# Altium integrated library Xilinx Virtex-II Pro.IntLib: 140 symbols (part 29 of 77)
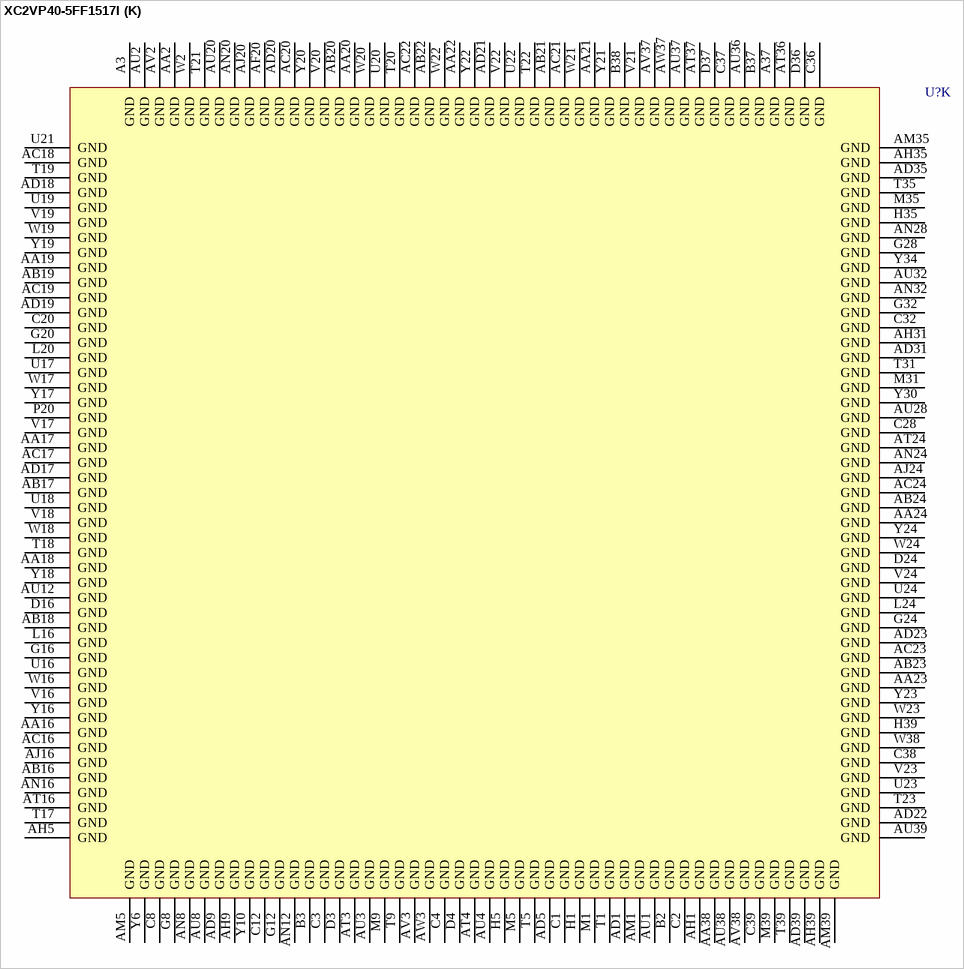
[diagram p427: symbol XC2VP40-5FF1517I]

## XC2VP40-5FF1517I
designator U?
Virtex-II Pro Platform FPGA, 1517-Ball FFBGA, Speed Grade 5, 804 User I/Os, Industrial Grade; PackageDocument: ver1.0, Apr-2001; User_I/Os: 804; Published: 16-Apr-2003; DatasheetDocument: 22-Apr-2004; PackageReference: FF1517; Publisher: Altium Limited; Code_JEDEC: MS-034-AAU-1
footprint FF1517 (1517-Ball Flip-Chip Fine Pitch Ball Grid Array (FF1517))
3D model XC2VP40-FF1517 (1517-Ball Flip-Chip Fine Pitch Ball Grid Array (FF1517))
signal-integrity model XC2VP40_FF1517 (Virtex-II Pro)
part A pins: C21 IO_L69P_0/VREF_0 (io), C22 IO_L69N_0 (io), C23 IO_L57N_0 (io), C25 IO_L46N_0 (io), C26 IO_L39N_0 (io), C29 IO_L21N_0 (io), C30 IO_L07N_0 (io), D20 IO_L75N_0/GCLK5P (io), D21 IO_L67N_0 (io), D22 NC, D23 IO_L57P_0/VREF_0 (io), D25 IO_L46P_0 (io), D26 IO_L39P_0 (io), D27 NC, D28 IO_L27N_0 (io), D29 IO_L21P_0 (io), D30 IO_L07P_0 (io), D31 IO_L01N_0/VRP_0 (io), E20 IO_L75P_0/GCLK4S (io), E21 IO_L67P_0 (io), E22 NC, E23 NC, E24 IO_L49P_0 (io), E25 IO_L49N_0 (io), E26 IO_L37N_0 (io), E27 NC, E28 IO_L27P_0/VREF_0 (io), E29 IO_L19N_0 (io), E30 IO_L06N_0 (io), E31 IO_L01P_0/VRN_0 (io), F20 IO_L73P_0 (io), F21 IO_L73N_0 (io), F22 NC, F23 VCCO_0 (power), F24 IO_L55N_0 (io), F25 IO_L45N_0 (io), F26 IO_L37P_0 (io), F27 VCCO_0 (power), F28 NC, F29 IO_L19P_0 (io), F30 IO_L06P_0 (io), G21 NC, G22 NC, G23 IO_L55P_0 (io), G25 IO_L45P_0/VREF_0 (io), G26 NC, G27 NC, G29 IO_L09N_0 (io), G30 IO_L03N_0 (io), H20 NC, H21 NC, H22 NC, H23 IO_L54N_0 (io), H24 IO_L48N_0 (io), H25 IO_L43N_0 (io), H26 NC, H27 NC, H28 IO_L25N_0 (io), H29 IO_L09P_0/VREF_0 (io), H30 IO_L03P_0/VREF_0 (io), J21 IO_L68N_0 (io), J22 NC, J23 IO_L54P_0 (io), J24 IO_L48P_0 (io), J25 IO_L43P_0 (io), J26 NC, J27 NC, J28 IO_L25P_0 (io), J29 IO_L08N_0 (io), J30 IO_L02P_0 (io), K21 IO_L68P_0 (io), K22 IO_L56N_0 (io), K23 VCCO_0 (power), K24 IO_L38P_0 (io), K25 IO_L38N_0 (io), K26 NC, K27 VCCO_0 (power), K28 IO_L05_0/No_Pair (io), K29 IO_L08P_0 (io), K30 IO_L02N_0 (io), L21 IO_L74N_0/GCLK7P (io), L22 IO_L56P_0 (io), L23 IO_L47N_0 (io), L25 NC, L26 NC, L27 IO_L20P_0 (io), L28 IO_L20N_0 (io), M21 IO_L74P_0/GCLK6S (io), M22 IO_L47P_0 (io), M23 IO_L53_0/No_Pair (io), M24 IO_L44P_0 (io), M25 IO_L44N_0 (io), M26 IO_L26P_0 (io), M27 IO_L26N_0 (io), N21 NC, N22 NC, N23 IO_L50_0/No_Pair (io), N24 VCCO_0 (power), N25 VCCO_0 (power), N26 VCCO_0 (power), P21 VCCO_0 (power), P22 VCCO_0 (power), P23 VCCO_0 (power), P24 VCCO_0 (power), P25 VCCO_0 (power)
part B pins: C10 IO_L07P_1 (io), C11 IO_L25P_1 (io), C14 IO_L43P_1 (io), C15 IO_L48P_1 (io), C17 IO_L57P_1 (io), C18 NC, C19 NC, D9 IO_L01P_1/VRN_1 (io), D10 IO_L07N_1 (io), D11 IO_L25N_1 (io), D12 NC, D13 NC, D14 IO_L43N_1 (io), D15 IO_L48N_1 (io), D17 IO_L57N_1/VREF_1 (io), D18 NC, D19 IO_L73P_1 (io), E9 IO_L01N_1/VRP_1 (io), E10 IO_L06P_1 (io), E11 IO_L21P_1 (io), E12 NC, E13 NC, E14 IO_L39P_1 (io), E15 IO_L46P_1 (io), E16 IO_L55P_1 (io), E17 IO_L55N_1 (io), E18 NC, E19 IO_L73N_1 (io), F10 IO_L06N_1 (io), F11 IO_L21N_1 (io), F12 NC, F13 VCCO_1 (power), F14 IO_L39N_1 (io), F15 IO_L46N_1 (io), F16 IO_L54P_1 (io), F17 VCCO_1 (power), F18 NC, F19 IO_L69P_1 (io), G10 IO_L03P_1 (io), G11 IO_L19P_1 (io), G13 NC, G14 IO_L37P_1 (io), G15 IO_L45P_1 (io), G17 IO_L54N_1 (io), G18 NC, G19 IO_L69N_1/VREF_1 (io), H10 IO_L03N_1/VREF_1 (io), H11 IO_L19N_1 (io), H12 IO_L27P_1 (io), H13 NC, H14 IO_L37N_1 (io), H15 IO_L45N_1/VREF_1 (io), H16 IO_L49P_1 (io), H17 IO_L50_1/No_Pair (io), H18 NC, H19 IO_L67P_1 (io), J10 IO_L09P_1 (io), J11 IO_L09N_1/VREF_1 (io), J12 IO_L27N_1/VREF_1 (io), J13 NC, J14 IO_L26P_1 (io), J15 NC, J16 IO_L49N_1 (io), J17 IO_L53_1/No_Pair (io), J18 NC, J19 IO_L67N_1 (io), J20 IO_L75P_1/GCLK2S (io), K10 IO_L05_1/No_Pair (io), K11 IO_L02P_1 (io), K12 IO_L02N_1 (io), K13 VCCO_1 (power), K14 IO_L26N_1 (io), K15 NC, K16 IO_L47P_1 (io), K17 VCCO_1 (power), K18 NC, K19 IO_L68P_1 (io), K20 IO_L75N_1/GCLK3P (io), L12 IO_L08P_1 (io), L13 IO_L08N_1 (io), L14 NC, L15 NC, L17 IO_L47N_1 (io), L18 NC, L19 IO_L68N_1 (io), M13 IO_L20P_1 (io), M14 IO_L20N_1 (io), M15 IO_L38P_1 (io), M16 IO_L38N_1 (io), M17 IO_L44P_1 (io), M18 IO_L56P_1 (io), M19 NC, M20 IO_L74P_1/GCLK0S (io), N14 VCCO_1 (power), N15 VCCO_1 (power), N16 VCCO_1 (power), N17 IO_L44N_1 (io), N18 IO_L56N_1 (io), N19 NC, N20 IO_L74N_1/GCLK1P (io), P15 VCCO_1 (power), P16 VCCO_1 (power), P17 VCCO_1 (power), P18 VCCO_1 (power), P19 VCCO_1 (power)
part C pins: C5 IO_L03N_2 (io), C7 IO_L01N_2/VRP_2 (io), D1 NC, D2 NC, D5 IO_L03P_2 (io), D6 IO_L04N_2/VREF_2 (io), D7 IO_L01P_2/VRN_2 (io), E1 VCCO_2 (power), E2 NC, E3 NC, E4 VCCO_2 (power), E6 IO_L04P_2 (io), E7 IO_L06N_2 (io), F1 NC, F2 NC, F3 NC, F4 NC, F5 NC, F7 IO_L06P_2 (io), F8 VCCO_2 (power), G1 NC, G2 NC, G3 NC, G4 NC, G5 NC, G6 NC, G7 NC, G9 IO_L02N_2 (io), H2 IO_L09N_2 (io), H3 IO_L09P_2 (io), H4 IO_L12N_2 (io), H6 IO_L07N_2 (io), H7 IO_L07P_2 (io), H8 IO_L05N_2 (io), H9 IO_L02P_2 (io), J1 IO_L13N_2 (io), J2 IO_L13P_2 (io), J3 IO_L18P_2 (io), J4 VCCO_2 (power), J5 IO_L12P_2 (io), J6 IO_L10N_2/VREF_2 (io), J7 IO_L10P_2 (io), J8 VCCO_2 (power), J9 IO_L05P_2 (io), K1 IO_L19N_2 (io), K2 IO_L19P_2 (io), K3 IO_L18N_2 (io), K4 IO_L16N_2/VREF_2 (io), K5 IO_L16P_2 (io), K6 IO_L15N_2 (io), K7 IO_L15P_2 (io), K8 IO_L08N_2 (io), K9 IO_L08P_2 (io), L1 IO_L25N_2 (io), L2 IO_L25P_2 (io), L3 IO_L24N_2 (io), L4 IO_L24P_2 (io), L5 IO_L22N_2/VREF_2 (io), L6 IO_L22P_2 (io), L7 IO_L21N_2 (io), L8 IO_L21P_2 (io), L9 IO_L11N_2 (io), M2 IO_L28N_2/VREF_2 (io), M3 IO_L28P_2 (io), M4 IO_L31N_2 (io), M6 IO_L27N_2 (io), M7 IO_L27P_2 (io), M8 IO_L14N_2 (io), M10 IO_L11P_2 (io), M11 IO_L20N_2 (io), N1 IO_L33N_2 (io), N2 IO_L33P_2 (io), N3 IO_L37P_2 (io), N4 VCCO_2 (power), N5 IO_L31P_2 (io), N6 IO_L30N_2 (io), N7 IO_L30P_2 (io), N8 VCCO_2 (power), N9 IO_L14P_2 (io), N10 IO_L17P_2 (io), N11 IO_L20P_2 (io), N12 VCCO_2 (power), P1 IO_L39N_2 (io), P2 IO_L39P_2 (io), P3 IO_L37N_2 (io), P4 IO_L36N_2 (io), P5 IO_L36P_2 (io), P6 IO_L34N_2/VREF_2 (io), P7 IO_L34P_2 (io), P8 IO_L23N_2 (io), P9 IO_L23P_2 (io), P10 IO_L17N_2 (io), P11 IO_L26N_2 (io), P12 IO_L26P_2 (io), P13 VCCO_2 (power), R1 IO_L45N_2 (io), R2 IO_L45P_2 (io), R3 IO_L43N_2 (io), R4 IO_L43P_2 (io), R5 IO_L42N_2 (io), R6 IO_L42P_2 (io), R7 IO_L40N_2/VREF_2 (io), R8 IO_L40P_2 (io), R9 IO_L29N_2 (io), R10 IO_L29P_2 (io), R11 IO_L32N_2 (io), R12 IO_L32P_2 (io), R13 IO_L35N_2 (io), R14 VCCO_2 (power), T2 IO_L48N_2 (io), T3 IO_L48P_2 (io), T4 IO_L51P_2 (io), T6 IO_L46N_2/VREF_2 (io), T7 IO_L46P_2 (io), T8 IO_L44P_2 (io), T10 IO_L38N_2 (io), T11 IO_L38P_2 (io), T12 IO_L41N_2 (io), T13 IO_L35P_2 (io), T14 VCCO_2 (power), U1 IO_L52N_2/VREF_2 (io), U2 IO_L52P_2 (io), U3 VCCO_2 (power), U4 IO_L51N_2 (io), U5 IO_L49N_2 (io), U6 IO_L49P_2 (io), U7 VCCO_2 (power), U8 IO_L44N_2 (io), U9 IO_L47N_2 (io), U10 IO_L47P_2 (io), U11 VCCO_2 (power), U12 IO_L41P_2 (io), U13 IO_L50N_2 (io), U14 VCCO_2 (power), V1 IO_L58N_2/VREF_2 (io), V2 IO_L58P_2 (io), V3 IO_L57N_2 (io), V4 IO_L57P_2 (io), V5 IO_L55N_2 (io), V6 IO_L55P_2 (io), V7 IO_L54N_2 (io), V8 IO_L54P_2 (io), V9 IO_L53N_2 (io), V10 IO_L53P_2 (io), V11 IO_L56N_2 (io), V12 IO_L56P_2 (io), V13 IO_L50P_2 (io), V14 VCCO_2 (power), W3 IO_L87N_2 (io), W4 IO_L87P_2 (io), W5 IO_L85N_2 (io), W6 IO_L85P_2 (io), W7 IO_L60N_2 (io), W8 IO_L60P_2 (io), W9 IO_L89N_2 (io), W10 IO_L59N_2 (io), W11 IO_L59P_2 (io), W12 IO_L86N_2 (io), W13 IO_L86P_2 (io), W14 VCCO_2 (power), Y3 IO_L90N_2 (io), Y4 IO_L90P_2 (io), Y5 VCCO_2 (power), Y7 IO_L88N_2/VREF_2 (io), Y8 IO_L88P_2 (io), Y9 IO_L89P_2 (io)
part D pins: AA3 IO_L87N_3/VREF_3 (io), AA4 IO_L87P_3 (io), AA5 IO_L88N_3 (io), AA6 IO_L88P_3 (io), AA7 IO_L90N_3 (io), AA8 IO_L90P_3 (io), AA9 IO_L59N_3 (io), AA10 IO_L59P_3 (io), AA11 IO_L56N_3 (io), AA12 IO_L56P_3 (io), AA13 IO_L86P_3 (io), AA14 VCCO_3 (power), AB1 IO_L57N_3/VREF_3 (io), AB2 IO_L57P_3 (io), AB3 IO_L58N_3 (io), AB4 IO_L58P_3 (io), AB5 IO_L60N_3 (io), AB6 IO_L60P_3 (io), AB7 IO_L85N_3 (io), AB8 IO_L85P_3 (io), AB9 IO_L53N_3 (io), AB10 IO_L53P_3 (io), AB11 IO_L50N_3 (io), AB12 IO_L50P_3 (io), AB13 IO_L44N_3 (io), AB14 VCCO_3 (power), AC1 IO_L54N_3 (io), AC2 IO_L54P_3 (io), AC3 VCCO_3 (power), AC4 IO_L51N_3/VREF_3 (io), AC5 IO_L55N_3 (io), AC6 IO_L55P_3 (io), AC7 VCCO_3 (power), AC8 IO_L52N_3 (io), AC9 IO_L47N_3 (io), AC10 IO_L47P_3 (io), AC11 VCCO_3 (power), AC12 IO_L38N_3 (io), AC13 IO_L44P_3 (io), AC14 VCCO_3 (power), AD2 IO_L48N_3 (io), AD3 IO_L48P_3 (io), AD4 IO_L51P_3 (io), AD6 IO_L49N_3 (io), AD7 IO_L49P_3 (io), AD8 IO_L52P_3 (io), AD10 IO_L41N_3 (io), AD11 IO_L41P_3 (io), AD12 IO_L38P_3 (io), AD13 IO_L29N_3 (io), AD14 VCCO_3 (power), AE1 IO_L42N_3 (io), AE2 IO_L42P_3 (io), AE3 IO_L43N_3 (io), AE4 IO_L43P_3 (io), AE5 IO_L45N_3/VREF_3 (io), AE6 IO_L45P_3 (io), AE7 IO_L46N_3 (io), AE8 IO_L46P_3 (io), AE9 IO_L35N_3 (io), AE10 IO_L35P_3 (io), AE11 IO_L32N_3 (io), AE12 IO_L32P_3 (io), AE13 IO_L29P_3 (io), AE14 VCCO_3 (power), AF1 IO_L37N_3 (io), AF2 IO_L37P_3 (io), AF3 IO_L34N_3 (io), AF4 IO_L39N_3/VREF_3 (io), AF5 IO_L39P_3 (io), AF6 IO_L40N_3 (io), AF7 IO_L40P_3 (io), AF8 IO_L26N_3 (io), AF9 IO_L26P_3 (io), AF10 IO_L23N_3 (io), AF11 IO_L20N_3 (io), AF12 IO_L20P_3 (io), AF13 VCCO_3 (power), AG1 IO_L33N_3/VREF_3 (io), AG2 IO_L33P_3 (io), AG3 IO_L34P_3 (io), AG4 VCCO_3 (power), AG5 IO_L30N_3 (io), AG6 IO_L36N_3 (io), AG7 IO_L36P_3 (io), AG8 VCCO_3 (power), AG9 IO_L17N_3 (io), AG10 IO_L23P_3 (io), AG11 IO_L14N_3 (io), AG12 VCCO_3 (power), AH2 IO_L28N_3 (io), AH3 IO_L28P_3 (io), AH4 IO_L30P_3 (io), AH6 IO_L31N_3 (io), AH7 IO_L31P_3 (io), AH8 IO_L17P_3 (io), AH10 IO_L11N_3 (io), AH11 IO_L14P_3 (io), AJ1 IO_L22N_3 (io), AJ2 IO_L22P_3 (io), AJ3 IO_L24N_3 (io), AJ4 IO_L24P_3 (io), AJ5 IO_L25N_3 (io), AJ6 IO_L25P_3 (io), AJ7 IO_L27N_3/VREF_3 (io), AJ8 IO_L27P_3 (io), AJ9 IO_L11P_3 (io), AK1 IO_L18N_3 (io), AK2 IO_L18P_3 (io), AK3 IO_L15N_3/VREF_3 (io), AK4 IO_L19N_3 (io), AK5 IO_L19P_3 (io), AK6 IO_L21N_3/VREF_3 (io), AK7 IO_L21P_3 (io), AK8 IO_L08N_3 (io), AK9 IO_L08P_3 (io), AL1 IO_L13N_3 (io), AL2 IO_L13P_3 (io), AL3 IO_L15P_3 (io), AL4 VCCO_3 (power), AL5 IO_L10N_3 (io), AL6 IO_L16N_3 (io), AL7 IO_L16P_3 (io), AL8 VCCO_3 (power), AL9 IO_L05N_3 (io), AM2 IO_L09N_3/VREF_3 (io), AM3 IO_L09P_3 (io), AM4 IO_L10P_3 (io), AM6 IO_L12N_3 (io), AM7 IO_L12P_3 (io), AM8 IO_L05P_3 (io), AM9 IO_L03N_3/VREF_3 (io), AN1 NC, AN2 NC, AN3 NC, AN4 NC, AN5 NC, AN6 IO_L07N_3 (io), AN7 IO_L07P_3 (io), AN9 IO_L03P_3 (io), AP1 NC, AP2 NC, AP3 NC, AP4 NC, AP5 NC, AP7 IO_L04N_3 (io), AP8 VCCO_3 (power), AR1 VCCO_3 (power), AR2 NC, AR3 NC, AR4 VCCO_3 (power), AR6 IO_L06N_3 (io), AR7 IO_L04P_3 (io), AR8 IO_L02N_3 (io), AT1 NC, AT2 NC, AT5 NC, AT6 IO_L06P_3 (io), AT7 IO_L01N_3/VRP_3 (io), AT8 IO_L02P_3 (io), AU5 NC, AU7 IO_L01P_3/VRN_3 (io), Y11 IO_L89N_3 (io), Y12 IO_L89P_3 (io), Y13 IO_L86N_3 (io), Y14 VCCO_3 (power)
part E pins: AF15 VCCO_4 (power), AF16 VCCO_4 (power), AF17 VCCO_4 (power), AF18 VCCO_4 (power), AF19 VCCO_4 (power), AG14 VCCO_4 (power), AG15 VCCO_4 (power), AG16 VCCO_4 (power), AG17 IO_L44P_4 (io), AG18 IO_L56P_4 (io), AG19 NC, AG20 IO_L74P_4/GCLK2P (io), AH13 IO_L20N_4 (io), AH14 IO_L20P_4 (io), AH15 IO_L38N_4 (io), AH16 IO_L38P_4 (io), AH17 IO_L44N_4 (io), AH18 IO_L56N_4 (io), AH19 NC, AH20 IO_L74N_4/GCLK3S (io), AJ12 IO_L08N_4 (io), AJ13 IO_L08P_4 (io), AJ14 NC, AJ15 NC, AJ17 IO_L47P_4 (io), AJ18 NC, AJ19 IO_L68P_4 (io), AK10 IO_L05_4/No_Pair (io), AK11 IO_L02N_4/D0 (io), AK12 IO_L02P_4/D1 (io), AK13 VCCO_4 (power), AK14 IO_L26P_4 (io), AK15 NC, AK16 IO_L47N_4 (io), AK17 VCCO_4 (power), AK18 NC, AK19 IO_L68N_4 (io), AK20 IO_L75P_4/GCLK0P (io), AL10 IO_L09N_4 (io), AL11 IO_L09P_4/VREF_4 (io), AL12 IO_L27P_4/VREF_4 (io), AL13 NC, AL14 IO_L26N_4 (io), AL15 NC, AL16 IO_L49P_4 (io), AL17 IO_L53_4/No_Pair (io), AL18 NC, AL19 IO_L67P_4 (io), AL20 IO_L75N_4/GCLK1S (io), AM10 IO_L03P_4/D3 (io), AM11 IO_L19P_4 (io), AM12 IO_L27N_4 (io), AM13 NC, AM14 IO_L37P_4 (io), AM15 IO_L45P_4/VREF_4 (io), AM16 IO_L49N_4 (io), AM17 IO_L50_4/No_Pair (io), AM18 NC, AM19 IO_L67N_4 (io), AN10 IO_L03N_4/D2 (io), AN11 IO_L19N_4 (io), AN13 NC, AN14 IO_L37N_4 (io), AN15 IO_L45N_4 (io), AN17 IO_L54P_4 (io), AN18 NC, AN19 IO_L69P_4/VREF_4 (io), AP10 IO_L06P_4/VRN_4 (io), AP11 IO_L21P_4 (io), AP12 NC, AP13 VCCO_4 (power), AP14 IO_L39P_4 (io), AP15 IO_L46P_4 (io), AP16 IO_L54N_4 (io), AP17 VCCO_4 (power), AP18 NC, AP19 IO_L69N_4 (io), AR9 IO_L01P_4/INIT_B (io), AR10 IO_L06N_4/VRP_4 (io), AR11 IO_L21N_4 (io), AR12 NC, AR13 NC, AR14 IO_L39N_4 (io), AR15 IO_L46N_4 (io), AR16 IO_L55N_4 (io), AR17 IO_L55P_4 (io), AR18 NC, AR19 IO_L73P_4 (io), AT9 IO_L01N_4/DOUT (io), AT10 IO_L07P_4/VREF_4 (io), AT11 IO_L25P_4 (io), AT12 NC, AT13 NC, AT14 IO_L43P_4 (io), AT15 IO_L48P_4 (io), AT17 IO_L57P_4/VREF_4 (io), AT18 NC, AT19 IO_L73N_4 (io), AU10 IO_L07N_4 (io), AU11 IO_L25N_4 (io), AU14 IO_L43N_4 (io), AU15 IO_L48N_4 (io), AU17 IO_L57N_4 (io), AU18 NC, AU19 NC
part F pins: AF21 VCCO_5 (power), AF22 VCCO_5 (power), AF23 VCCO_5 (power), AF24 VCCO_5 (power), AF25 VCCO_5 (power), AG21 NC, AG22 NC, AG23 IO_L50_5/No_Pair (io), AG24 VCCO_5 (power), AG25 VCCO_5 (power), AG26 VCCO_5 (power), AH21 IO_L74N_5/GCLK5S (io), AH22 IO_L47N_5 (io), AH23 IO_L53_5/No_Pair (io), AH24 IO_L44N_5 (io), AH25 IO_L44P_5 (io), AH26 IO_L26N_5 (io), AH27 IO_L26P_5 (io), AJ21 IO_L74P_5/GCLK4P (io), AJ22 IO_L56N_5 (io), AJ23 IO_L47P_5 (io), AJ25 NC, AJ26 NC, AJ27 IO_L20N_5 (io), AJ28 IO_L20P_5 (io), AK21 IO_L68N_5 (io), AK22 IO_L56P_5 (io), AK23 VCCO_5 (power), AK24 IO_L38N_5 (io), AK25 IO_L38P_5 (io), AK26 NC, AK27 VCCO_5 (power), AK28 IO_L05_5/No_Pair (io), AK29 IO_L08N_5 (io), AK30 IO_L02P_5/D7 (io), AL21 IO_L68P_5 (io), AL22 NC, AL23 IO_L54N_5 (io), AL24 IO_L48N_5 (io), AL25 IO_L43N_5 (io), AL26 NC, AL27 NC, AL28 IO_L25N_5 (io), AL29 IO_L08P_5 (io), AL30 IO_L02N_5/D6 (io), AM20 NC, AM21 NC, AM22 NC, AM23 IO_L54P_5 (io), AM24 IO_L48P_5 (io), AM25 IO_L43P_5 (io), AM26 NC, AM27 NC, AM28 IO_L25P_5 (io), AM29 IO_L09N_5/VREF_5 (io), AM30 IO_L03N_5/D4 (io), AN21 NC, AN22 NC, AN23 IO_L55N_5 (io), AN25 IO_L45N_5/VREF_5 (io), AN26 NC, AN27 NC, AN29 IO_L09P_5 (io), AN30 IO_L03P_5/D5 (io), AP20 IO_L73N_5 (io), AP21 IO_L73P_5 (io), AP22 NC, AP23 VCCO_5 (power), AP24 IO_L55P_5 (io), AP25 IO_L45P_5 (io), AP26 IO_L37N_5 (io), AP27 VCCO_5 (power), AP28 NC, AP29 IO_L19N_5 (io), AP30 IO_L06N_5/VRP_5 (io), AR20 IO_L75N_5/GCLK7S (io), AR21 IO_L67N_5 (io), AR22 NC, AR23 NC, AR24 IO_L49N_5 (io), AR25 IO_L49P_5 (io), AR26 IO_L37P_5 (io), AR27 NC, AR28 IO_L27N_5/VREF_5 (io), AR29 IO_L19P_5 (io), AR30 IO_L06P_5/VRN_5 (io), AR31 IO_L01N_5/RDWR_B (io), AT20 IO_L75P_5/GCLK6P (io), AT21 IO_L67P_5 (io), AT22 NC, AT23 IO_L57N_5/VREF_5 (io), AT25 IO_L46N_5 (io), AT26 IO_L39N_5 (io), AT27 NC, AT28 IO_L27P_5 (io), AT29 IO_L21N_5 (io), AT30 IO_L07N_5/VREF_5 (io), AT31 IO_L01P_5/CS_B (io), AU21 IO_L69N_5/VREF_5 (io), AU22 IO_L69P_5 (io), AU23 IO_L57P_5 (io), AU25 IO_L46P_5 (io), AU26 IO_L39P_5 (io), AU29 IO_L21P_5 (io), AU30 IO_L07P_5 (io)
part G pins: AA26 VCCO_6 (power), AA27 IO_L86P_6 (io), AA28 IO_L56P_6 (io), AA29 IO_L56N_6 (io), AA30 IO_L59P_6 (io), AA31 IO_L59N_6 (io), AA32 IO_L90P_6 (io), AA33 IO_L90N_6 (io), AA34 IO_L88P_6 (io), AA35 IO_L88N_6 (io), AA36 IO_L87P_6 (io), AA37 IO_L87N_6/VREF_6 (io), AB26 VCCO_6 (power), AB27 IO_L44N_6 (io), AB28 IO_L50P_6 (io), AB29 IO_L50N_6 (io), AB30 IO_L53P_6 (io), AB31 IO_L53N_6 (io), AB32 IO_L85P_6 (io), AB33 IO_L85N_6 (io), AB34 IO_L60P_6 (io), AB35 IO_L60N_6 (io), AB36 IO_L58P_6 (io), AB37 IO_L58N_6 (io), AB38 IO_L57P_6 (io), AB39 IO_L57N_6/VREF_6 (io), AC26 VCCO_6 (power), AC27 IO_L44P_6 (io), AC28 IO_L38N_6 (io), AC29 VCCO_6 (power), AC30 IO_L47P_6 (io), AC31 IO_L47N_6 (io), AC32 IO_L52N_6 (io), AC33 VCCO_6 (power), AC34 IO_L55P_6 (io), AC35 IO_L55N_6 (io), AC36 IO_L51N_6/VREF_6 (io), AC37 VCCO_6 (power), AC38 IO_L54P_6 (io), AC39 IO_L54N_6 (io), AD26 VCCO_6 (power), AD27 IO_L29N_6 (io), AD28 IO_L38P_6 (io), AD29 IO_L41P_6 (io), AD30 IO_L41N_6 (io), AD32 IO_L52P_6 (io), AD33 IO_L49P_6 (io), AD34 IO_L49N_6 (io), AD36 IO_L51P_6 (io), AD37 IO_L48P_6 (io), AD38 IO_L48N_6 (io), AE26 VCCO_6 (power), AE27 IO_L29P_6 (io), AE28 IO_L32P_6 (io), AE29 IO_L32N_6 (io), AE30 IO_L35P_6 (io), AE31 IO_L35N_6 (io), AE32 IO_L46P_6 (io), AE33 IO_L46N_6 (io), AE34 IO_L45P_6 (io), AE35 IO_L45N_6/VREF_6 (io), AE36 IO_L43P_6 (io), AE37 IO_L43N_6 (io), AE38 IO_L42P_6 (io), AE39 IO_L42N_6 (io), AF27 VCCO_6 (power), AF28 IO_L20P_6 (io), AF29 IO_L20N_6 (io), AF30 IO_L23N_6 (io), AF31 IO_L26P_6 (io), AF32 IO_L26N_6 (io), AF33 IO_L40P_6 (io), AF34 IO_L40N_6 (io), AF35 IO_L39P_6 (io), AF36 IO_L39N_6/VREF_6 (io), AF37 IO_L34N_6 (io), AF38 IO_L37P_6 (io), AF39 IO_L37N_6 (io), AG28 VCCO_6 (power), AG29 IO_L14N_6 (io), AG30 IO_L23P_6 (io), AG31 IO_L17N_6 (io), AG32 VCCO_6 (power), AG33 IO_L36P_6 (io), AG34 IO_L36N_6 (io), AG35 IO_L30N_6 (io), AG36 VCCO_6 (power), AG37 IO_L34P_6 (io), AG38 IO_L33P_6 (io), AG39 IO_L33N_6/VREF_6 (io), AH29 IO_L14P_6 (io), AH30 IO_L11N_6 (io), AH32 IO_L17P_6 (io), AH33 IO_L31P_6 (io), AH34 IO_L31N_6 (io), AH36 IO_L30P_6 (io), AH37 IO_L28P_6 (io), AH38 IO_L28N_6 (io), AJ31 IO_L11P_6 (io), AJ32 IO_L27P_6 (io), AJ33 IO_L27N_6/VREF_6 (io), AJ34 IO_L25P_6 (io), AJ35 IO_L25N_6 (io), AJ36 IO_L24P_6 (io), AJ37 IO_L24N_6 (io), AJ38 IO_L22P_6 (io), AJ39 IO_L22N_6 (io), AK31 IO_L08P_6 (io), AK32 IO_L08N_6 (io), AK33 IO_L21P_6 (io), AK34 IO_L21N_6/VREF_6 (io), AK35 IO_L19P_6 (io), AK36 IO_L19N_6 (io), AK37 IO_L15N_6/VREF_6 (io), AK38 IO_L18P_6 (io), AK39 IO_L18N_6 (io), AL31 IO_L05N_6 (io), AL32 VCCO_6 (power), AL33 IO_L16P_6 (io), AL34 IO_L16N_6 (io), AL35 IO_L10N_6 (io), AL36 VCCO_6 (power), AL37 IO_L15P_6 (io), AL38 IO_L13P_6 (io), AL39 IO_L13N_6 (io), AM31 IO_L03N_6/VREF_6 (io), AM32 IO_L05P_6 (io), AM33 IO_L12P_6 (io), AM34 IO_L12N_6 (io), AM36 IO_L10P_6 (io), AM37 IO_L09P_6 (io), AM38 IO_L09N_6/VREF_6 (io), AN31 IO_L03P_6 (io), AN33 IO_L07P_6 (io), AN34 IO_L07N_6 (io), AN35 NC, AN36 NC, AN37 NC, AN38 NC, AN39 NC, AP32 VCCO_6 (power), AP33 IO_L04N_6 (io), AP35 NC, AP36 NC, AP37 NC, AP38 NC, AP39 NC, AR32 IO_L02N_6 (io), AR33 IO_L04P_6 (io), AR34 IO_L06N_6 (io), AR36 VCCO_6 (power), AR37 NC, AR38 NC, AR39 VCCO_6 (power), AT32 IO_L02P_6 (io), AT33 IO_L01N_6/VRP_6 (io), AT34 IO_L06P_6 (io), AT35 NC, AT38 NC, AT39 NC, AU33 IO_L01P_6/VRN_6 (io), AU35 NC, Y26 VCCO_6 (power), Y27 IO_L86N_6 (io), Y28 IO_L89P_6 (io), Y29 IO_L89N_6 (io)
part H pins: C33 IO_L01N_7/VRP_7 (io), C35 IO_L03N_7 (io), D33 IO_L01P_7/VRN_7 (io), D34 IO_L04N_7/VREF_7 (io), D35 IO_L03P_7 (io), D38 NC, D39 NC, E33 IO_L06N_7 (io), E34 IO_L04P_7 (io), E36 VCCO_7 (power), E37 NC, E38 NC, E39 VCCO_7 (power), F32 VCCO_7 (power), F33 IO_L06P_7 (io), F35 NC, F36 NC, F37 NC, F38 NC, F39 NC, G31 IO_L02N_7 (io), G33 NC, G34 NC, G35 NC, G36 NC, G37 NC, G38 NC, G39 NC, H31 IO_L02P_7 (io), H32 IO_L05N_7 (io), H33 IO_L07P_7 (io), H34 IO_L07N_7 (io), H36 IO_L12N_7 (io), H37 IO_L09P_7 (io), H38 IO_L09N_7 (io), J31 IO_L05P_7 (io), J32 VCCO_7 (power), J33 IO_L10P_7 (io), J34 IO_L10N_7/VREF_7 (io), J35 IO_L12P_7 (io), J36 VCCO_7 (power), J37 IO_L18P_7 (io), J38 IO_L13P_7 (io), J39 IO_L13N_7 (io), K31 IO_L08P_7 (io), K32 IO_L08N_7 (io), K33 IO_L15N_7 (io), K34 IO_L15P_7 (io), K35 IO_L16P_7 (io), K36 IO_L16N_7/VREF_7 (io), K37 IO_L18N_7 (io), K38 IO_L19P_7 (io), K39 IO_L19N_7 (io), L31 IO_L11N_7 (io), L32 IO_L21P_7 (io), L33 IO_L21N_7 (io), L34 IO_L22P_7 (io), L35 IO_L22N_7/VREF_7 (io), L36 IO_L24P_7 (io), L37 IO_L24N_7 (io), L38 IO_L25P_7 (io), L39 IO_L25N_7 (io), M29 IO_L20N_7 (io), M30 IO_L11P_7 (io), M32 IO_L14N_7 (io), M33 IO_L27P_7 (io), M34 IO_L27N_7 (io), M36 IO_L31N_7 (io), M37 IO_L28P_7 (io), M38 IO_L28N_7/VREF_7 (io), N28 VCCO_7 (power), N29 IO_L20P_7 (io), N30 IO_L17P_7 (io), N31 IO_L14P_7 (io), N32 VCCO_7 (power), N33 IO_L30P_7 (io), N34 IO_L30N_7 (io), N35 IO_L31P_7 (io), N36 VCCO_7 (power), N37 IO_L37P_7 (io), N38 IO_L33P_7 (io), N39 IO_L33N_7 (io), P27 VCCO_7 (power), P28 IO_L26P_7 (io), P29 IO_L26N_7 (io), P30 IO_L17N_7 (io), P31 IO_L23P_7 (io), P32 IO_L23N_7 (io), P33 IO_L34P_7 (io), P34 IO_L34N_7/VREF_7 (io), P35 IO_L36P_7 (io), P36 IO_L36N_7 (io), P37 IO_L37N_7 (io), P38 IO_L39P_7 (io), P39 IO_L39N_7 (io), R26 VCCO_7 (power), R27 IO_L35N_7 (io), R28 IO_L32P_7 (io), R29 IO_L32N_7 (io), R30 IO_L29P_7 (io), R31 IO_L29N_7 (io), R32 IO_L40P_7 (io), R33 IO_L40N_7/VREF_7 (io), R34 IO_L42P_7 (io), R35 IO_L42N_7 (io), R36 IO_L43P_7 (io), R37 IO_L43N_7 (io), R38 IO_L45P_7 (io), R39 IO_L45N_7 (io), T26 VCCO_7 (power), T27 IO_L35P_7 (io), T28 IO_L41N_7 (io), T29 IO_L38P_7 (io), T30 IO_L38N_7 (io), T32 IO_L44P_7 (io), T33 IO_L46P_7 (io), T34 IO_L46N_7/VREF_7 (io), T36 IO_L51P_7 (io), T37 IO_L48P_7 (io), T38 IO_L48N_7 (io), U26 VCCO_7 (power), U27 IO_L50N_7 (io), U28 IO_L41P_7 (io), U29 VCCO_7 (power), U30 IO_L47P_7 (io), U31 IO_L47N_7 (io), U32 IO_L44N_7 (io), U33 VCCO_7 (power), U34 IO_L49P_7 (io), U35 IO_L49N_7 (io), U36 IO_L51N_7 (io), U37 VCCO_7 (power), U38 IO_L52P_7 (io), U39 IO_L52N_7/VREF_7 (io), V26 VCCO_7 (power), V27 IO_L50P_7 (io), V28 IO_L56P_7 (io), V29 IO_L56N_7 (io), V30 IO_L53P_7 (io), V31 IO_L53N_7 (io), V32 IO_L54P_7 (io), V33 IO_L54N_7 (io), V34 IO_L55P_7 (io), V35 IO_L55N_7 (io), V36 IO_L57P_7 (io), V37 IO_L57N_7 (io), V38 IO_L58P_7 (io), V39 IO_L58N_7/VREF_7 (io), W26 VCCO_7 (power), W27 IO_L86P_7 (io), W28 IO_L86N_7 (io), W29 IO_L59P_7 (io), W30 IO_L59N_7 (io), W31 IO_L89N_7 (io), W32 IO_L60P_7 (io), W33 IO_L60N_7 (io), W34 IO_L85P_7 (io), W35 IO_L85N_7 (io), W36 IO_L87P_7 (io), W37 IO_L87N_7 (io), Y31 IO_L89P_7 (io), Y32 IO_L88P_7 (io), Y33 IO_L88N_7/VREF_7 (io), Y35 VCCO_7 (power), Y36 IO_L90P_7 (io), Y37 IO_L90N_7 (io)
part I pins: A4 RXNPAD11 (in), A5 RXPPAD11 (in), A6 TXPPAD11 (hiz), A7 TXNPAD11 (hiz), A8 RXNPAD9 (in), A9 RXPPAD9 (in), A10 TXPPAD9 (hiz), A11 TXNPAD9 (hiz), A12 NC, A13 NC, A14 NC, A15 NC, A16 RXNPAD7 (in), A17 RXPPAD7 (in), A18 TXPPAD7 (hiz), A19 TXNPAD7 (hiz), A21 RXNPAD6 (in), A22 RXPPAD6 (in), A23 TXPPAD6 (hiz), A24 TXNPAD6 (hiz), A25 NC, A26 NC, A27 NC, A28 NC, A29 RXNPAD4 (in), A30 RXPPAD4 (in), A31 TXPPAD4 (hiz), A32 TXNPAD4 (hiz), A33 RXNPAD2 (in), A34 RXPPAD2 (in), A35 TXPPAD2 (hiz), A36 TXNPAD2 (hiz), AU6 GNDA14 (power), AU9 GNDA16 (power), AU13 NC, AU16 GNDA18 (power), AU24 GNDA19 (power), AU27 NC, AU31 GNDA21 (power), AU34 GNDA23 (power), AV4 AVCCAUXRX14 (power), AV5 VTRXPAD14 (power), AV6 AVCCAUXTX14 (power), AV7 VTTXPAD14 (power), AV8 AVCCAUXRX16 (power), AV9 VTRXPAD16 (power), AV10 AVCCAUXTX16 (power), AV11 VTTXPAD16 (power), AV12 NC, AV13 NC, AV14 NC, AV15 NC, AV16 AVCCAUXRX18 (power), AV17 VTRXPAD18 (power), AV18 AVCCAUXTX18 (power), AV19 VTTXPAD18 (power), AV21 AVCCAUXRX19 (power), AV22 VTRXPAD19 (power), AV23 AVCCAUXTX19 (power), AV24 VTTXPAD19 (power), AV25 NC, AV26 NC, AV27 NC, AV28 NC, AV29 AVCCAUXRX21 (power), AV30 VTRXPAD21 (power), AV31 AVCCAUXTX21 (power), AV32 VTTXPAD21 (power), AV33 AVCCAUXRX23 (power), AV34 VTRXPAD23 (power), AV35 AVCCAUXTX23 (power), AV36 VTTXPAD23 (power), AW4 RXNPAD14 (in), AW5 RXPPAD14 (in), AW6 TXPPAD14 (hiz), AW7 TXNPAD14 (hiz), AW8 RXNPAD16 (in), AW9 RXPPAD16 (in), AW10 TXPPAD16 (hiz), AW11 TXNPAD16 (hiz), AW12 NC, AW13 NC, AW14 NC, AW15 NC, AW16 RXNPAD18 (in), AW17 RXPPAD18 (in), AW18 TXPPAD18 (hiz), AW19 TXNPAD18 (hiz), AW21 RXNPAD19 (in), AW22 RXPPAD19 (in), AW23 TXPPAD19 (hiz), AW24 TXNPAD19 (hiz), AW25 NC, AW26 NC, AW27 NC, AW28 NC, AW29 RXNPAD21 (in), AW30 RXPPAD21 (in), AW31 TXPPAD21 (hiz), AW32 TXNPAD21 (hiz), AW33 RXNPAD23 (in), AW34 RXPPAD23 (in), AW35 TXPPAD23 (hiz), AW36 TXNPAD23 (hiz), B4 AVCCAUXRX11 (power), B5 VTRXPAD11 (power), B6 AVCCAUXTX11 (power), B7 VTTXPAD11 (power), B8 AVCCAUXRX9 (power), B9 VTRXPAD9 (power), B10 AVCCAUXTX9 (power), B11 VTTXPAD9 (power), B12 NC, B13 NC, B14 NC, B15 NC, B16 AVCCAUXRX7 (power), B17 VTRXPAD7 (power), B18 AVCCAUXTX7 (power), B19 VTTXPAD7 (power), B21 AVCCAUXRX6 (power), B22 VTRXPAD6 (power), B23 AVCCAUXTX6 (power), B24 VTTXPAD6 (power), B25 NC, B26 NC, B27 NC, B28 NC, B29 AVCCAUXRX4 (power), B30 VTRXPAD4 (power), B31 AVCCAUXTX4 (power), B32 VTTXPAD4 (power), B33 AVCCAUXRX2 (power), B34 VTRXPAD2 (power), B35 AVCCAUXTX2 (power), B36 VTTXPAD2 (power), C6 GNDA11 (power), C9 GNDA9 (power), C13 NC, C16 GNDA7 (power), C24 GNDA6 (power), C27 NC, C31 GNDA4 (power), C34 GNDA2 (power)
part J pins: A2 VCCAUX (power), A20 VCCAUX (power), A38 VCCAUX (power), AA1 VCCAUX (power), AA15 VCCINT (power), AA25 VCCINT (power), AA39 VCCAUX (power), AB15 VCCINT (power), AB25 VCCINT (power), AC15 VCCINT (power), AC25 VCCINT (power), AD15 VCCINT (power), AD16 VCCINT (power), AD24 VCCINT (power), AD25 VCCINT (power), AE15 VCCINT (power), AE16 VCCINT (power), AE17 VCCINT (power), AE18 VCCINT (power), AE19 VCCINT (power), AE20 VCCINT (power), AE21 VCCINT (power), AE22 VCCINT (power), AE23 VCCINT (power), AE24 VCCINT (power), AE25 VCCINT (power), AF14 VCCINT (power), AF26 VCCINT (power), AG13 VCCINT (power), AG27 VCCINT (power), AH12 VCCINT (power), AH28 VCCINT (power), AJ10 CCLK (io), AJ11 DONE (io), AJ29 M2 (in), AJ30 M1 (in), AP6 VCCAUX (power), AP9 PWRDWN_B (in), AP31 M0 (in), AP34 VCCAUX (power), AR5 VCCAUX (power), AR35 VCCAUX (power), AV1 VCCAUX (power), AV20 VCCAUX (power), AV39 VCCAUX (power), AW2 VCCAUX (power), AW20 VCCAUX (power), AW38 VCCAUX (power), B1 VCCAUX (power), B20 VCCAUX (power), B39 VCCAUX (power), D8 RSVD, D32 PROG_B (in), E5 VCCAUX (power), E8 TCK (in), E32 HSWAP_EN (in), E35 VCCAUX (power), F6 VCCAUX (power), F9 TMS (in), F31 DXN, F34 VCCAUX (power), L10 TDO (out), L11 VBATT (power), L29 DXP, L30 TDI (in), M12 VCCINT (power), M28 VCCINT (power), N13 VCCINT (power), N27 VCCINT (power), P14 VCCINT (power), P26 VCCINT (power), R15 VCCINT (power), R16 VCCINT (power), R17 VCCINT (power), R18 VCCINT (power), R19 VCCINT (power), R20 VCCINT (power), R21 VCCINT (power), R22 VCCINT (power), R23 VCCINT (power), R24 VCCINT (power), R25 VCCINT (power), T15 VCCINT (power), T16 VCCINT (power), T24 VCCINT (power), T25 VCCINT (power), U15 VCCINT (power), U25 VCCINT (power), V15 VCCINT (power), V25 VCCINT (power), W1 VCCAUX (power), W15 VCCINT (power), W25 VCCINT (power), W39 VCCAUX (power), Y1 VCCAUX (power), Y2 VCCAUX (power), Y15 VCCINT (power), Y25 VCCINT (power), Y38 VCCAUX (power), Y39 VCCAUX (power)
part K pins: A3 GND (power), A37 GND (power), AA2 GND (power), AA16 GND (power), AA17 GND (power), AA18 GND (power), AA19 GND (power), AA20 GND (power), AA21 GND (power), AA22 GND (power), AA23 GND (power), AA24 GND (power), AA38 GND (power), AB16 GND (power), AB17 GND (power), AB18 GND (power), AB19 GND (power), AB20 GND (power), AB21 GND (power), AB22 GND (power), AB23 GND (power), AB24 GND (power), AC16 GND (power), AC17 GND (power), AC18 GND (power), AC19 GND (power), AC20 GND (power), AC21 GND (power), AC22 GND (power), AC23 GND (power), AC24 GND (power), AD1 GND (power), AD5 GND (power), AD9 GND (power), AD17 GND (power), AD18 GND (power), AD19 GND (power), AD20 GND (power), AD21 GND (power), AD22 GND (power), AD23 GND (power), AD31 GND (power), AD35 GND (power), AD39 GND (power), AF20 GND (power), AH1 GND (power), AH5 GND (power), AH9 GND (power), AH31 GND (power), AH35 GND (power), AH39 GND (power), AJ16 GND (power), AJ20 GND (power), AJ24 GND (power), AM1 GND (power), AM5 GND (power), AM35 GND (power), AM39 GND (power), AN8 GND (power), AN12 GND (power), AN16 GND (power), AN20 GND (power), AN24 GND (power), AN28 GND (power), AN32 GND (power), AT3 GND (power), AT4 GND (power), AT16 GND (power), AT24 GND (power), AT36 GND (power), AT37 GND (power), AU1 GND (power), AU2 GND (power), AU3 GND (power), AU4 GND (power), AU8 GND (power), AU12 GND (power), AU20 GND (power), AU28 GND (power), AU32 GND (power), AU36 GND (power), AU37 GND (power), AU38 GND (power), AU39 GND (power), AV2 GND (power), AV3 GND (power), AV37 GND (power), AV38 GND (power), AW3 GND (power), AW37 GND (power), B2 GND (power), B3 GND (power), B37 GND (power), B38 GND (power), C1 GND (power), C2 GND (power), C3 GND (power), C4 GND (power), C8 GND (power), C12 GND (power), C20 GND (power), C28 GND (power), C32 GND (power), C36 GND (power), C37 GND (power), C38 GND (power), C39 GND (power), D3 GND (power), D4 GND (power), D16 GND (power), D24 GND (power), D36 GND (power), D37 GND (power), G8 GND (power), G12 GND (power), G16 GND (power), G20 GND (power), G24 GND (power), G28 GND (power), G32 GND (power), H1 GND (power), H5 GND (power), H35 GND (power), H39 GND (power), L16 GND (power), L20 GND (power), L24 GND (power), M1 GND (power), M5 GND (power), M9 GND (power), M31 GND (power), M35 GND (power), M39 GND (power), P20 GND (power), T1 GND (power), T5 GND (power), T9 GND (power), T17 GND (power), T18 GND (power), T19 GND (power), T20 GND (power), T21 GND (power), T22 GND (power), T23 GND (power), T31 GND (power), T35 GND (power), T39 GND (power), U16 GND (power), U17 GND (power), U18 GND (power), U19 GND (power), U20 GND (power), U21 GND (power), U22 GND (power), U23 GND (power), U24 GND (power), V16 GND (power), V17 GND (power), V18 GND (power), V19 GND (power), V20 GND (power), V21 GND (power), V22 GND (power), V23 GND (power), V24 GND (power), W2 GND (power), W16 GND (power), W17 GND (power), W18 GND (power), W19 GND (power), W20 GND (power), W21 GND (power), W22 GND (power), W23 GND (power), W24 GND (power), W38 GND (power), Y6 GND (power), Y10 GND (power), Y16 GND (power), Y17 GND (power), Y18 GND (power), Y19 GND (power), Y20 GND (power), Y21 GND (power), Y22 GND (power), Y23 GND (power), Y24 GND (power), Y30 GND (power), Y34 GND (power)
part A text: Bank 0
part B text: Bank 1
part C text: Bank 2
part D text: Bank 3
part E text: Bank 4
part F text: Bank 5
part G text: Bank 6
part H text: Bank 7
part I text: TRANSCEIVER CORE

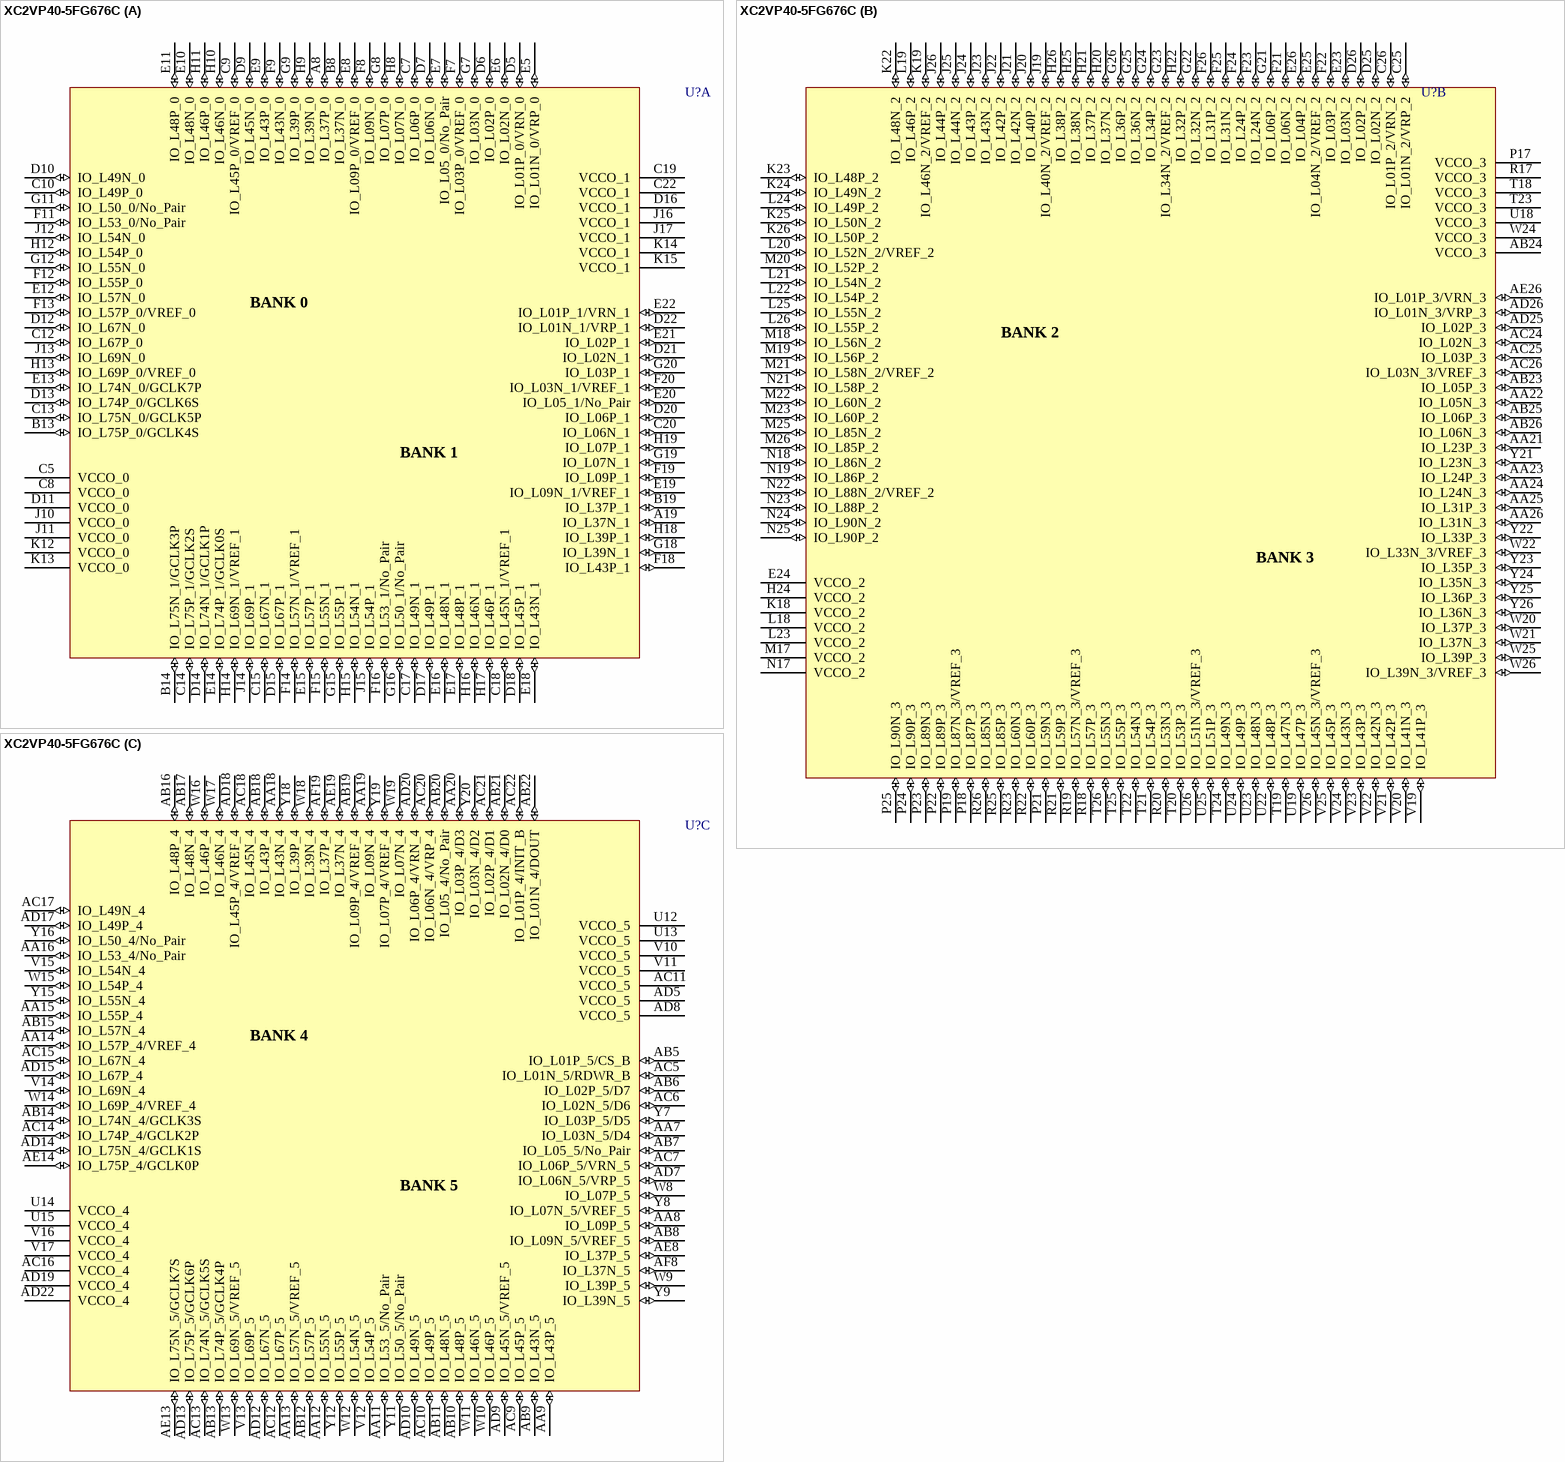
[diagram p251: symbol XC2VP40-5FG676C]

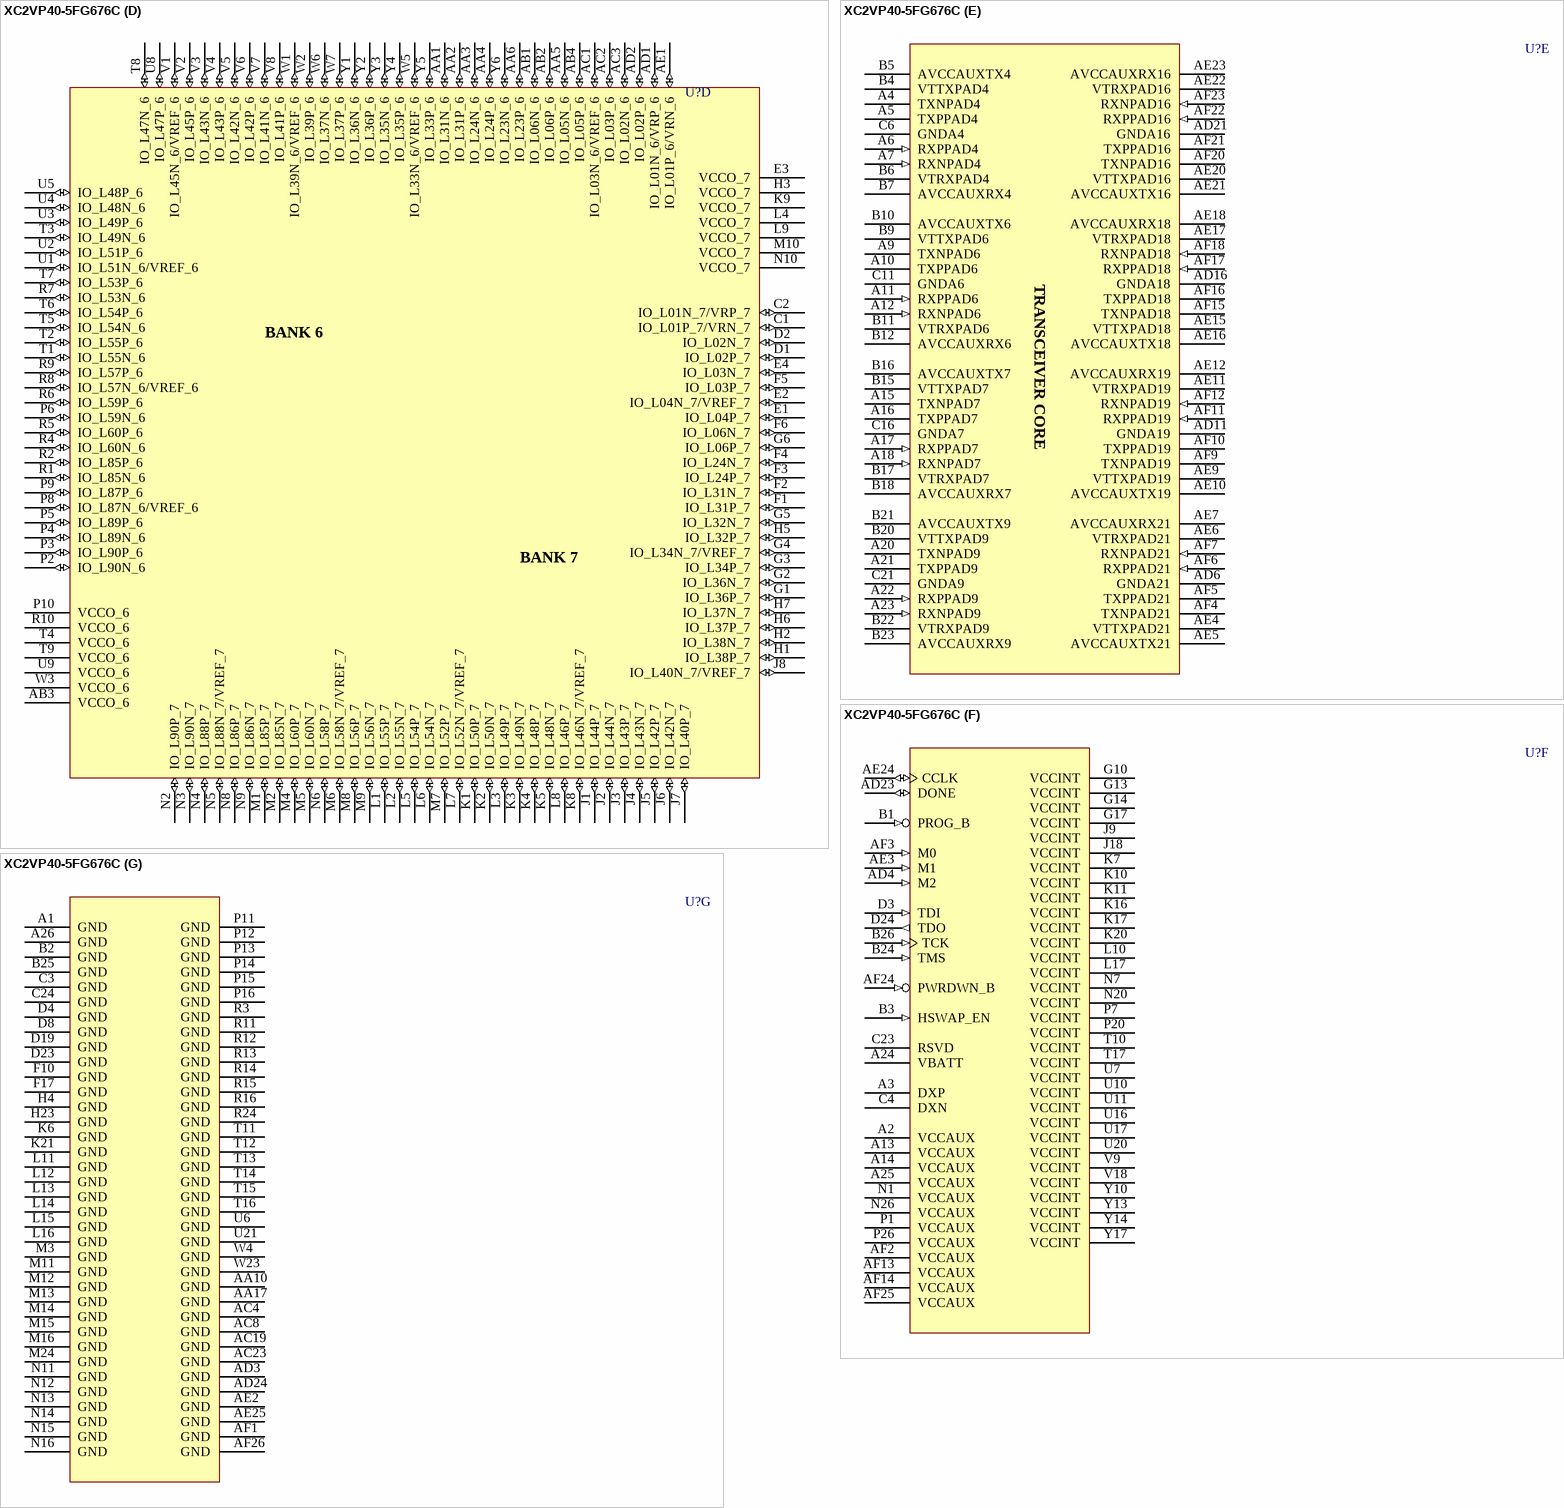
[diagram p252: symbol XC2VP40-5FG676C]

## XC2VP40-5FG676C
designator U?
Virtex-II Pro Platform FPGA, 676-Ball FBGA, Speed Grade 5, 416 User I/Os, Commercial Grade; PackageDocument: ver1.1, Apr-2001; User_I/Os: 416; Published: 16-Apr-2003; DatasheetDocument: 22-Apr-2004; PackageReference: FG676; Publisher: Altium Limited; Code_JEDEC: MS-034-AAL-1; Code_IPC: PBGA 27X27 FE676
footprint FG676 (676-Ball Fine Pitch Ball Grid Array (FG676))
3D model XC2VP40-FG676 (676-Ball Fine Pitch Ball Grid Array (FG676))
signal-integrity model XC2VP40_FG676 (Virtex-II Pro)
part A pins: A8 IO_L37P_0 (io), A19 IO_L37N_1 (io), B8 IO_L37N_0 (io), B13 IO_L75P_0/GCLK4S (io), B14 IO_L75N_1/GCLK3P (io), B19 IO_L37P_1 (io), C5 VCCO_0 (power), C7 IO_L06P_0 (io), C8 VCCO_0 (power), C9 IO_L45P_0/VREF_0 (io), C10 IO_L49P_0 (io), C12 IO_L67P_0 (io), C13 IO_L75N_0/GCLK5P (io), C14 IO_L75P_1/GCLK2S (io), C15 IO_L67N_1 (io), C17 IO_L49N_1 (io), C18 IO_L45N_1/VREF_1 (io), C19 VCCO_1 (power), C20 IO_L06N_1 (io), C22 VCCO_1 (power), D5 IO_L01P_0/VRN_0 (io), D6 IO_L02P_0 (io), D7 IO_L06N_0 (io), D9 IO_L45N_0 (io), D10 IO_L49N_0 (io), D11 VCCO_0 (power), D12 IO_L67N_0 (io), D13 IO_L74P_0/GCLK6S (io), D14 IO_L74N_1/GCLK1P (io), D15 IO_L67P_1 (io), D16 VCCO_1 (power), D17 IO_L49P_1 (io), D18 IO_L45P_1 (io), D20 IO_L06P_1 (io), D21 IO_L02N_1 (io), D22 IO_L01N_1/VRP_1 (io), E5 IO_L01N_0/VRP_0 (io), E6 IO_L02N_0 (io), E7 IO_L05_0/No_Pair (io), E8 IO_L09P_0/VREF_0 (io), E9 IO_L43P_0 (io), E10 IO_L48N_0 (io), E11 IO_L48P_0 (io), E12 IO_L57N_0 (io), E13 IO_L74N_0/GCLK7P (io), E14 IO_L74P_1/GCLK0S (io), E15 IO_L57P_1 (io), E16 IO_L48N_1 (io), E17 IO_L48P_1 (io), E18 IO_L43N_1 (io), E19 IO_L09N_1/VREF_1 (io), E20 IO_L05_1/No_Pair (io), E21 IO_L02P_1 (io), E22 IO_L01P_1/VRN_1 (io), F7 IO_L03P_0/VREF_0 (io), F8 IO_L09N_0 (io), F9 IO_L43N_0 (io), F11 IO_L53_0/No_Pair (io), F12 IO_L55P_0 (io), F13 IO_L57P_0/VREF_0 (io), F14 IO_L57N_1/VREF_1 (io), F15 IO_L55N_1 (io), F16 IO_L53_1/No_Pair (io), F18 IO_L43P_1 (io), F19 IO_L09P_1 (io), F20 IO_L03N_1/VREF_1 (io), G7 IO_L03N_0 (io), G8 IO_L07P_0 (io), G9 IO_L39P_0 (io), G11 IO_L50_0/No_Pair (io), G12 IO_L55N_0 (io), G15 IO_L55P_1 (io), G16 IO_L50_1/No_Pair (io), G18 IO_L39N_1 (io), G19 IO_L07N_1 (io), G20 IO_L03P_1 (io), H8 IO_L07N_0 (io), H9 IO_L39N_0 (io), H10 IO_L46N_0 (io), H11 IO_L46P_0 (io), H12 IO_L54P_0 (io), H13 IO_L69P_0/VREF_0 (io), H14 IO_L69N_1/VREF_1 (io), H15 IO_L54N_1 (io), H16 IO_L46N_1 (io), H17 IO_L46P_1 (io), H18 IO_L39P_1 (io), H19 IO_L07P_1 (io), J10 VCCO_0 (power), J11 VCCO_0 (power), J12 IO_L54N_0 (io), J13 IO_L69N_0 (io), J14 IO_L69P_1 (io), J15 IO_L54P_1 (io), J16 VCCO_1 (power), J17 VCCO_1 (power), K12 VCCO_0 (power), K13 VCCO_0 (power), K14 VCCO_1 (power), K15 VCCO_1 (power)
part B pins: AA21 IO_L23P_3 (io), AA22 IO_L05N_3 (io), AA23 IO_L24P_3 (io), AA24 IO_L24N_3 (io), AA25 IO_L31P_3 (io), AA26 IO_L31N_3 (io), AB23 IO_L05P_3 (io), AB24 VCCO_3 (power), AB25 IO_L06P_3 (io), AB26 IO_L06N_3 (io), AC24 IO_L02N_3 (io), AC25 IO_L03P_3 (io), AC26 IO_L03N_3/VREF_3 (io), AD25 IO_L02P_3 (io), AD26 IO_L01N_3/VRP_3 (io), AE26 IO_L01P_3/VRN_3 (io), C25 IO_L01N_2/VRP_2 (io), C26 IO_L01P_2/VRN_2 (io), D25 IO_L02N_2 (io), D26 IO_L02P_2 (io), E23 IO_L03N_2 (io), E24 VCCO_2 (power), E25 IO_L04N_2/VREF_2 (io), E26 IO_L04P_2 (io), F21 IO_L06N_2 (io), F22 IO_L03P_2 (io), F23 IO_L24N_2 (io), F24 IO_L24P_2 (io), F25 IO_L31N_2 (io), F26 IO_L31P_2 (io), G21 IO_L06P_2 (io), G22 IO_L32N_2 (io), G23 IO_L34N_2/VREF_2 (io), G24 IO_L34P_2 (io), G25 IO_L36N_2 (io), G26 IO_L36P_2 (io), H20 IO_L37N_2 (io), H21 IO_L37P_2 (io), H22 IO_L32P_2 (io), H24 VCCO_2 (power), H25 IO_L38N_2 (io), H26 IO_L38P_2 (io), J19 IO_L40N_2/VREF_2 (io), J20 IO_L40P_2 (io), J21 IO_L42N_2 (io), J22 IO_L42P_2 (io), J23 IO_L43N_2 (io), J24 IO_L43P_2 (io), J25 IO_L44N_2 (io), J26 IO_L44P_2 (io), K18 VCCO_2 (power), K19 IO_L46N_2/VREF_2 (io), K22 IO_L48N_2 (io), K23 IO_L48P_2 (io), K24 IO_L49N_2 (io), K25 IO_L50N_2 (io), K26 IO_L50P_2 (io), L18 VCCO_2 (power), L19 IO_L46P_2 (io), L20 IO_L52N_2/VREF_2 (io), L21 IO_L54N_2 (io), L22 IO_L54P_2 (io), L23 VCCO_2 (power), L24 IO_L49P_2 (io), L25 IO_L55N_2 (io), L26 IO_L55P_2 (io), M17 VCCO_2 (power), M18 IO_L56N_2 (io), M19 IO_L56P_2 (io), M20 IO_L52P_2 (io), M21 IO_L58N_2/VREF_2 (io), M22 IO_L60N_2 (io), M23 IO_L60P_2 (io), M25 IO_L85N_2 (io), M26 IO_L85P_2 (io), N17 VCCO_2 (power), N18 IO_L86N_2 (io), N19 IO_L86P_2 (io), N21 IO_L58P_2 (io), N22 IO_L88N_2/VREF_2 (io), N23 IO_L88P_2 (io), N24 IO_L90N_2 (io), N25 IO_L90P_2 (io), P17 VCCO_3 (power), P18 IO_L87P_3 (io), P19 IO_L87N_3/VREF_3 (io), P21 IO_L59N_3 (io), P22 IO_L89P_3 (io), P23 IO_L89N_3 (io), P24 IO_L90P_3 (io), P25 IO_L90N_3 (io), R17 VCCO_3 (power), R18 IO_L57P_3 (io), R19 IO_L57N_3/VREF_3 (io), R20 IO_L53N_3 (io), R21 IO_L59P_3 (io), R22 IO_L60P_3 (io), R23 IO_L60N_3 (io), R25 IO_L85P_3 (io), R26 IO_L85N_3 (io), T18 VCCO_3 (power), T19 IO_L47N_3 (io), T20 IO_L53P_3 (io), T21 IO_L54P_3 (io), T22 IO_L54N_3 (io), T23 VCCO_3 (power), T24 IO_L49N_3 (io), T25 IO_L55P_3 (io), T26 IO_L55N_3 (io), U18 VCCO_3 (power), U19 IO_L47P_3 (io), U22 IO_L48P_3 (io), U23 IO_L48N_3 (io), U24 IO_L49P_3 (io), U25 IO_L51P_3 (io), U26 IO_L51N_3/VREF_3 (io), V19 IO_L41P_3 (io), V20 IO_L41N_3 (io), V21 IO_L42P_3 (io), V22 IO_L42N_3 (io), V23 IO_L43P_3 (io), V24 IO_L43N_3 (io), V25 IO_L45P_3 (io), V26 IO_L45N_3/VREF_3 (io), W20 IO_L37P_3 (io), W21 IO_L37N_3 (io), W22 IO_L33N_3/VREF_3 (io), W24 VCCO_3 (power), W25 IO_L39P_3 (io), W26 IO_L39N_3/VREF_3 (io), Y21 IO_L23N_3 (io), Y22 IO_L33P_3 (io), Y23 IO_L35P_3 (io), Y24 IO_L35N_3 (io), Y25 IO_L36P_3 (io), Y26 IO_L36N_3 (io)
part C pins: AA7 IO_L03N_5/D4 (io), AA8 IO_L09P_5 (io), AA9 IO_L43P_5 (io), AA11 IO_L53_5/No_Pair (io), AA12 IO_L55N_5 (io), AA13 IO_L57N_5/VREF_5 (io), AA14 IO_L57P_4/VREF_4 (io), AA15 IO_L55P_4 (io), AA16 IO_L53_4/No_Pair (io), AA18 IO_L43N_4 (io), AA19 IO_L09N_4 (io), AA20 IO_L03P_4/D3 (io), AB5 IO_L01P_5/CS_B (io), AB6 IO_L02P_5/D7 (io), AB7 IO_L05_5/No_Pair (io), AB8 IO_L09N_5/VREF_5 (io), AB9 IO_L43N_5 (io), AB10 IO_L48P_5 (io), AB11 IO_L48N_5 (io), AB12 IO_L57P_5 (io), AB13 IO_L74P_5/GCLK4P (io), AB14 IO_L74N_4/GCLK3S (io), AB15 IO_L57N_4 (io), AB16 IO_L48P_4 (io), AB17 IO_L48N_4 (io), AB18 IO_L43P_4 (io), AB19 IO_L09P_4/VREF_4 (io), AB20 IO_L05_4/No_Pair (io), AB21 IO_L02N_4/D0 (io), AB22 IO_L01N_4/DOUT (io), AC5 IO_L01N_5/RDWR_B (io), AC6 IO_L02N_5/D6 (io), AC7 IO_L06P_5/VRN_5 (io), AC9 IO_L45P_5 (io), AC10 IO_L49P_5 (io), AC11 VCCO_5 (power), AC12 IO_L67P_5 (io), AC13 IO_L74N_5/GCLK5S (io), AC14 IO_L74P_4/GCLK2P (io), AC15 IO_L67N_4 (io), AC16 VCCO_4 (power), AC17 IO_L49N_4 (io), AC18 IO_L45N_4 (io), AC20 IO_L06N_4/VRP_4 (io), AC21 IO_L02P_4/D1 (io), AC22 IO_L01P_4/INIT_B (io), AD5 VCCO_5 (power), AD7 IO_L06N_5/VRP_5 (io), AD8 VCCO_5 (power), AD9 IO_L45N_5/VREF_5 (io), AD10 IO_L49N_5 (io), AD12 IO_L67N_5 (io), AD13 IO_L75P_5/GCLK6P (io), AD14 IO_L75N_4/GCLK1S (io), AD15 IO_L67P_4 (io), AD17 IO_L49P_4 (io), AD18 IO_L45P_4/VREF_4 (io), AD19 VCCO_4 (power), AD20 IO_L06P_4/VRN_4 (io), AD22 VCCO_4 (power), AE8 IO_L37P_5 (io), AE13 IO_L75N_5/GCLK7S (io), AE14 IO_L75P_4/GCLK0P (io), AE19 IO_L37N_4 (io), AF8 IO_L37N_5 (io), AF19 IO_L37P_4 (io), U12 VCCO_5 (power), U13 VCCO_5 (power), U14 VCCO_4 (power), U15 VCCO_4 (power), V10 VCCO_5 (power), V11 VCCO_5 (power), V12 IO_L54P_5 (io), V13 IO_L69P_5 (io), V14 IO_L69N_4 (io), V15 IO_L54N_4 (io), V16 VCCO_4 (power), V17 VCCO_4 (power), W8 IO_L07P_5 (io), W9 IO_L39P_5 (io), W10 IO_L46P_5 (io), W11 IO_L46N_5 (io), W12 IO_L54N_5 (io), W13 IO_L69N_5/VREF_5 (io), W14 IO_L69P_4/VREF_4 (io), W15 IO_L54P_4 (io), W16 IO_L46P_4 (io), W17 IO_L46N_4 (io), W18 IO_L39N_4 (io), W19 IO_L07N_4 (io), Y7 IO_L03P_5/D5 (io), Y8 IO_L07N_5/VREF_5 (io), Y9 IO_L39N_5 (io), Y11 IO_L50_5/No_Pair (io), Y12 IO_L55P_5 (io), Y15 IO_L55N_4 (io), Y16 IO_L50_4/No_Pair (io), Y18 IO_L39P_4 (io), Y19 IO_L07P_4/VREF_4 (io), Y20 IO_L03N_4/D2 (io)
part D pins: AA1 IO_L31N_6 (io), AA2 IO_L31P_6 (io), AA3 IO_L24N_6 (io), AA4 IO_L24P_6 (io), AA5 IO_L05N_6 (io), AA6 IO_L23P_6 (io), AB1 IO_L06N_6 (io), AB2 IO_L06P_6 (io), AB3 VCCO_6 (power), AB4 IO_L05P_6 (io), AC1 IO_L03N_6/VREF_6 (io), AC2 IO_L03P_6 (io), AC3 IO_L02N_6 (io), AD1 IO_L01N_6/VRP_6 (io), AD2 IO_L02P_6 (io), AE1 IO_L01P_6/VRN_6 (io), C1 IO_L01P_7/VRN_7 (io), C2 IO_L01N_7/VRP_7 (io), D1 IO_L02P_7 (io), D2 IO_L02N_7 (io), E1 IO_L04P_7 (io), E2 IO_L04N_7/VREF_7 (io), E3 VCCO_7 (power), E4 IO_L03N_7 (io), F1 IO_L31P_7 (io), F2 IO_L31N_7 (io), F3 IO_L24P_7 (io), F4 IO_L24N_7 (io), F5 IO_L03P_7 (io), F6 IO_L06N_7 (io), G1 IO_L36P_7 (io), G2 IO_L36N_7 (io), G3 IO_L34P_7 (io), G4 IO_L34N_7/VREF_7 (io), G5 IO_L32N_7 (io), G6 IO_L06P_7 (io), H1 IO_L38P_7 (io), H2 IO_L38N_7 (io), H3 VCCO_7 (power), H5 IO_L32P_7 (io), H6 IO_L37P_7 (io), H7 IO_L37N_7 (io), J1 IO_L44P_7 (io), J2 IO_L44N_7 (io), J3 IO_L43P_7 (io), J4 IO_L43N_7 (io), J5 IO_L42P_7 (io), J6 IO_L42N_7 (io), J7 IO_L40P_7 (io), J8 IO_L40N_7/VREF_7 (io), K1 IO_L50P_7 (io), K2 IO_L50N_7 (io), K3 IO_L49N_7 (io), K4 IO_L48P_7 (io), K5 IO_L48N_7 (io), K8 IO_L46N_7/VREF_7 (io), K9 VCCO_7 (power), L1 IO_L55P_7 (io), L2 IO_L55N_7 (io), L3 IO_L49P_7 (io), L4 VCCO_7 (power), L5 IO_L54P_7 (io), L6 IO_L54N_7 (io), L7 IO_L52N_7/VREF_7 (io), L8 IO_L46P_7 (io), L9 VCCO_7 (power), M1 IO_L85P_7 (io), M2 IO_L85N_7 (io), M4 IO_L60P_7 (io), M5 IO_L60N_7 (io), M6 IO_L58N_7/VREF_7 (io), M7 IO_L52P_7 (io), M8 IO_L56P_7 (io), M9 IO_L56N_7 (io), M10 VCCO_7 (power), N2 IO_L90P_7 (io), N3 IO_L90N_7 (io), N4 IO_L88P_7 (io), N5 IO_L88N_7/VREF_7 (io), N6 IO_L58P_7 (io), N8 IO_L86P_7 (io), N9 IO_L86N_7 (io), N10 VCCO_7 (power), P2 IO_L90N_6 (io), P3 IO_L90P_6 (io), P4 IO_L89N_6 (io), P5 IO_L89P_6 (io), P6 IO_L59N_6 (io), P8 IO_L87N_6/VREF_6 (io), P9 IO_L87P_6 (io), P10 VCCO_6 (power), R1 IO_L85N_6 (io), R2 IO_L85P_6 (io), R4 IO_L60N_6 (io), R5 IO_L60P_6 (io), R6 IO_L59P_6 (io), R7 IO_L53N_6 (io), R8 IO_L57N_6/VREF_6 (io), R9 IO_L57P_6 (io), R10 VCCO_6 (power), T1 IO_L55N_6 (io), T2 IO_L55P_6 (io), T3 IO_L49N_6 (io), T4 VCCO_6 (power), T5 IO_L54N_6 (io), T6 IO_L54P_6 (io), T7 IO_L53P_6 (io), T8 IO_L47N_6 (io), T9 VCCO_6 (power), U1 IO_L51N_6/VREF_6 (io), U2 IO_L51P_6 (io), U3 IO_L49P_6 (io), U4 IO_L48N_6 (io), U5 IO_L48P_6 (io), U8 IO_L47P_6 (io), U9 VCCO_6 (power), V1 IO_L45N_6/VREF_6 (io), V2 IO_L45P_6 (io), V3 IO_L43N_6 (io), V4 IO_L43P_6 (io), V5 IO_L42N_6 (io), V6 IO_L42P_6 (io), V7 IO_L41N_6 (io), V8 IO_L41P_6 (io), W1 IO_L39N_6/VREF_6 (io), W2 IO_L39P_6 (io), W3 VCCO_6 (power), W5 IO_L33N_6/VREF_6 (io), W6 IO_L37N_6 (io), W7 IO_L37P_6 (io), Y1 IO_L36N_6 (io), Y2 IO_L36P_6 (io), Y3 IO_L35N_6 (io), Y4 IO_L35P_6 (io), Y5 IO_L33P_6 (io), Y6 IO_L23N_6 (io)
part E pins: A4 TXNPAD4 (hiz), A5 TXPPAD4 (hiz), A6 RXPPAD4 (in), A7 RXNPAD4 (in), A9 TXNPAD6 (hiz), A10 TXPPAD6 (hiz), A11 RXPPAD6 (in), A12 RXNPAD6 (in), A15 TXNPAD7 (hiz), A16 TXPPAD7 (hiz), A17 RXPPAD7 (in), A18 RXNPAD7 (in), A20 TXNPAD9 (hiz), A21 TXPPAD9 (hiz), A22 RXPPAD9 (in), A23 RXNPAD9 (in), AD6 GNDA21 (power), AD11 GNDA19 (power), AD16 GNDA18 (power), AD21 GNDA16 (power), AE4 VTTXPAD21 (power), AE5 AVCCAUXTX21 (power), AE6 VTRXPAD21 (power), AE7 AVCCAUXRX21 (power), AE9 VTTXPAD19 (power), AE10 AVCCAUXTX19 (power), AE11 VTRXPAD19 (power), AE12 AVCCAUXRX19 (power), AE15 VTTXPAD18 (power), AE16 AVCCAUXTX18 (power), AE17 VTRXPAD18 (power), AE18 AVCCAUXRX18 (power), AE20 VTTXPAD16 (power), AE21 AVCCAUXTX16 (power), AE22 VTRXPAD16 (power), AE23 AVCCAUXRX16 (power), AF4 TXNPAD21 (hiz), AF5 TXPPAD21 (hiz), AF6 RXPPAD21 (in), AF7 RXNPAD21 (in), AF9 TXNPAD19 (hiz), AF10 TXPPAD19 (hiz), AF11 RXPPAD19 (in), AF12 RXNPAD19 (in), AF15 TXNPAD18 (hiz), AF16 TXPPAD18 (hiz), AF17 RXPPAD18 (in), AF18 RXNPAD18 (in), AF20 TXNPAD16 (hiz), AF21 TXPPAD16 (hiz), AF22 RXPPAD16 (in), AF23 RXNPAD16 (in), B4 VTTXPAD4 (power), B5 AVCCAUXTX4 (power), B6 VTRXPAD4 (power), B7 AVCCAUXRX4 (power), B9 VTTXPAD6 (power), B10 AVCCAUXTX6 (power), B11 VTRXPAD6 (power), B12 AVCCAUXRX6 (power), B15 VTTXPAD7 (power), B16 AVCCAUXTX7 (power), B17 VTRXPAD7 (power), B18 AVCCAUXRX7 (power), B20 VTTXPAD9 (power), B21 AVCCAUXTX9 (power), B22 VTRXPAD9 (power), B23 AVCCAUXRX9 (power), C6 GNDA4 (power), C11 GNDA6 (power), C16 GNDA7 (power), C21 GNDA9 (power)
part F pins: A2 VCCAUX (power), A3 DXP, A13 VCCAUX (power), A14 VCCAUX (power), A24 VBATT (power), A25 VCCAUX (power), AD4 M2 (in), AD23 DONE (io), AE3 M1 (in), AE24 CCLK (io), AF2 VCCAUX (power), AF3 M0 (in), AF13 VCCAUX (power), AF14 VCCAUX (power), AF24 PWRDWN_B (in), AF25 VCCAUX (power), B1 PROG_B (in), B3 HSWAP_EN (in), B24 TMS (in), B26 TCK (in), C4 DXN, C23 RSVD, D3 TDI (in), D24 TDO (out), G10 VCCINT (power), G13 VCCINT (power), G14 VCCINT (power), G17 VCCINT (power), J9 VCCINT (power), J18 VCCINT (power), K7 VCCINT (power), K10 VCCINT (power), K11 VCCINT (power), K16 VCCINT (power), K17 VCCINT (power), K20 VCCINT (power), L10 VCCINT (power), L17 VCCINT (power), N1 VCCAUX (power), N7 VCCINT (power), N20 VCCINT (power), N26 VCCAUX (power), P1 VCCAUX (power), P7 VCCINT (power), P20 VCCINT (power), P26 VCCAUX (power), T10 VCCINT (power), T17 VCCINT (power), U7 VCCINT (power), U10 VCCINT (power), U11 VCCINT (power), U16 VCCINT (power), U17 VCCINT (power), U20 VCCINT (power), V9 VCCINT (power), V18 VCCINT (power), Y10 VCCINT (power), Y13 VCCINT (power), Y14 VCCINT (power), Y17 VCCINT (power)
part G pins: A1 GND (power), A26 GND (power), AA10 GND (power), AA17 GND (power), AC4 GND (power), AC8 GND (power), AC19 GND (power), AC23 GND (power), AD3 GND (power), AD24 GND (power), AE2 GND (power), AE25 GND (power), AF1 GND (power), AF26 GND (power), B2 GND (power), B25 GND (power), C3 GND (power), C24 GND (power), D4 GND (power), D8 GND (power), D19 GND (power), D23 GND (power), F10 GND (power), F17 GND (power), H4 GND (power), H23 GND (power), K6 GND (power), K21 GND (power), L11 GND (power), L12 GND (power), L13 GND (power), L14 GND (power), L15 GND (power), L16 GND (power), M3 GND (power), M11 GND (power), M12 GND (power), M13 GND (power), M14 GND (power), M15 GND (power), M16 GND (power), M24 GND (power), N11 GND (power), N12 GND (power), N13 GND (power), N14 GND (power), N15 GND (power), N16 GND (power), P11 GND (power), P12 GND (power), P13 GND (power), P14 GND (power), P15 GND (power), P16 GND (power), R3 GND (power), R11 GND (power), R12 GND (power), R13 GND (power), R14 GND (power), R15 GND (power), R16 GND (power), R24 GND (power), T11 GND (power), T12 GND (power), T13 GND (power), T14 GND (power), T15 GND (power), T16 GND (power), U6 GND (power), U21 GND (power), W4 GND (power), W23 GND (power)
part A text: BANK 0; BANK 1
part B text: BANK 2; BANK 3
part C text: BANK 4; BANK 5
part D text: BANK 6; BANK 7
part E text: TRANSCEIVER CORE

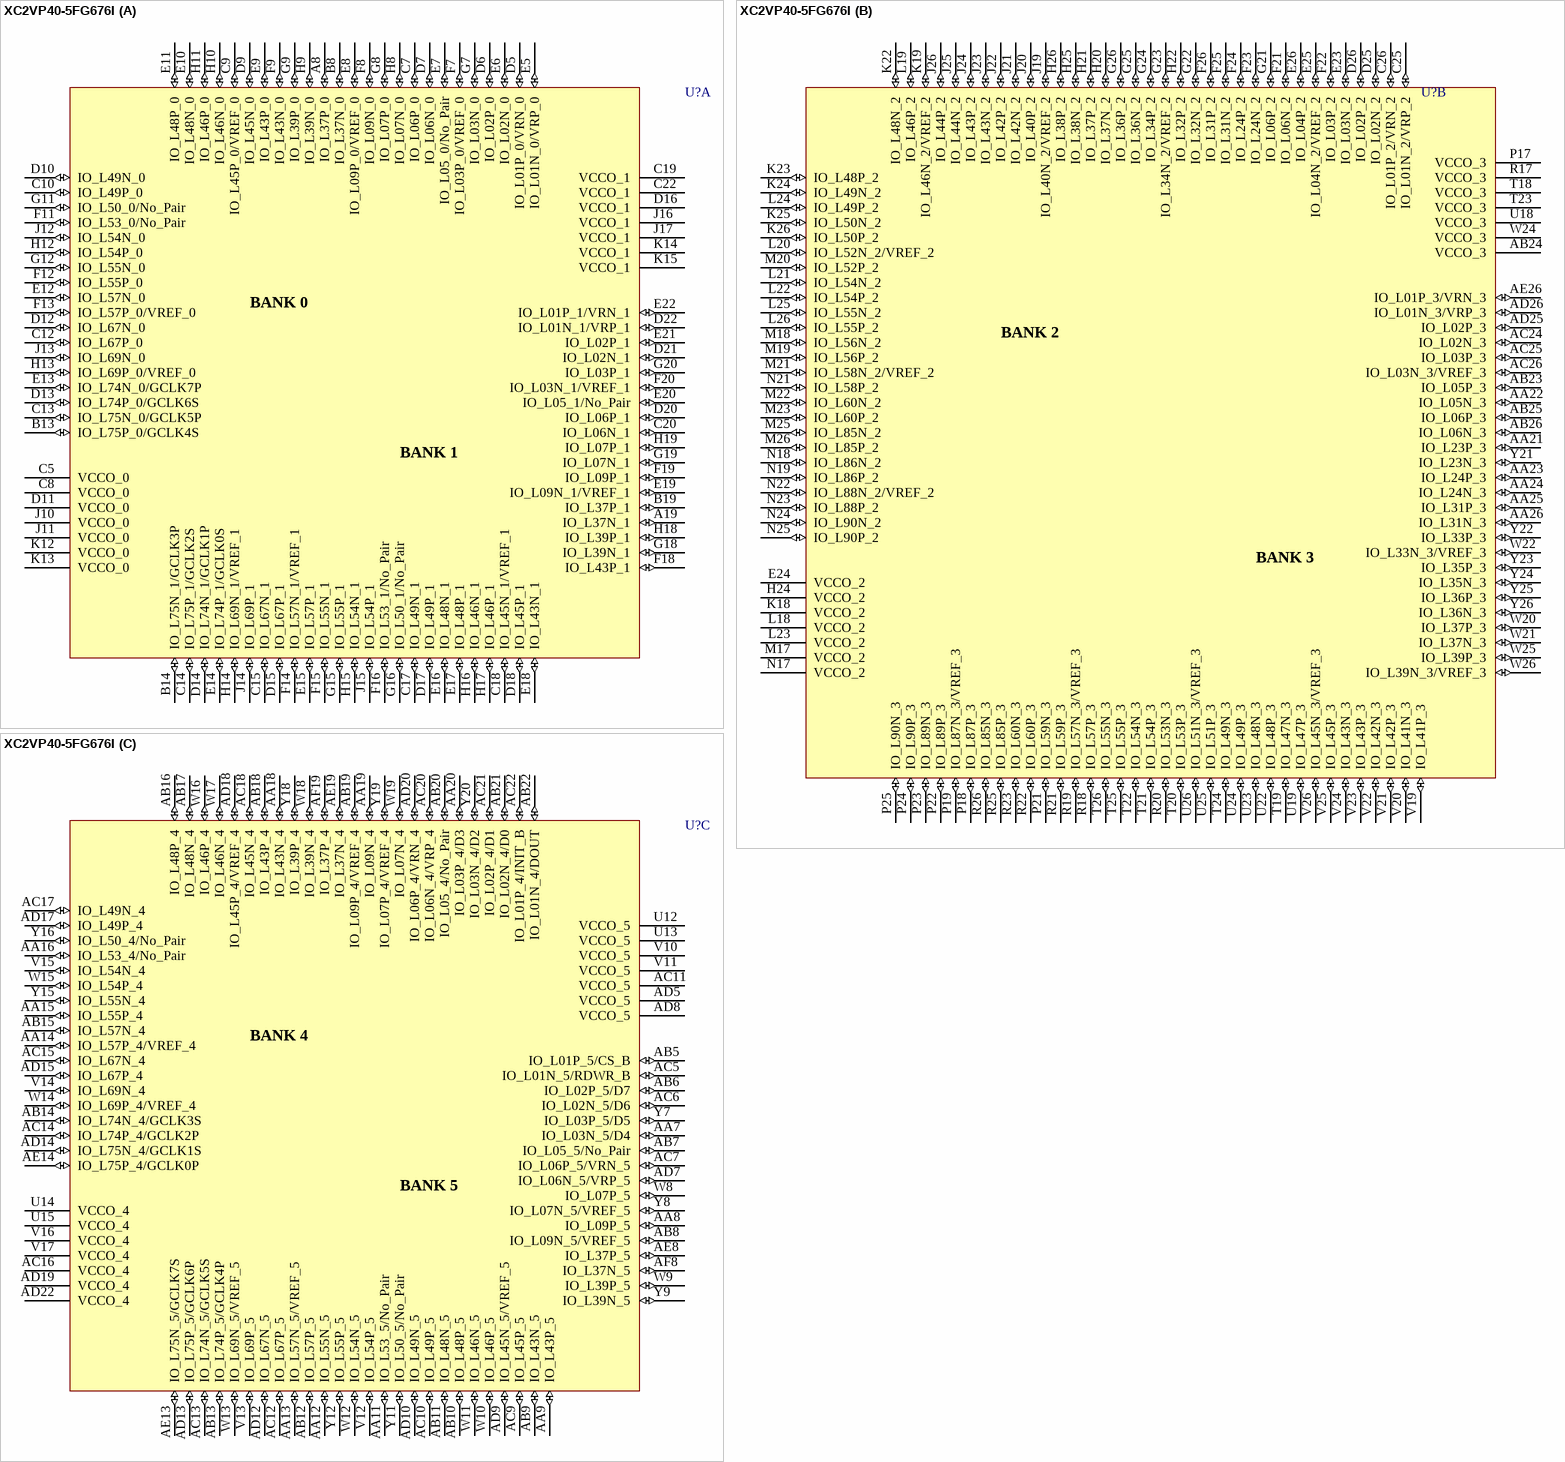
[diagram p253: symbol XC2VP40-5FG676I]

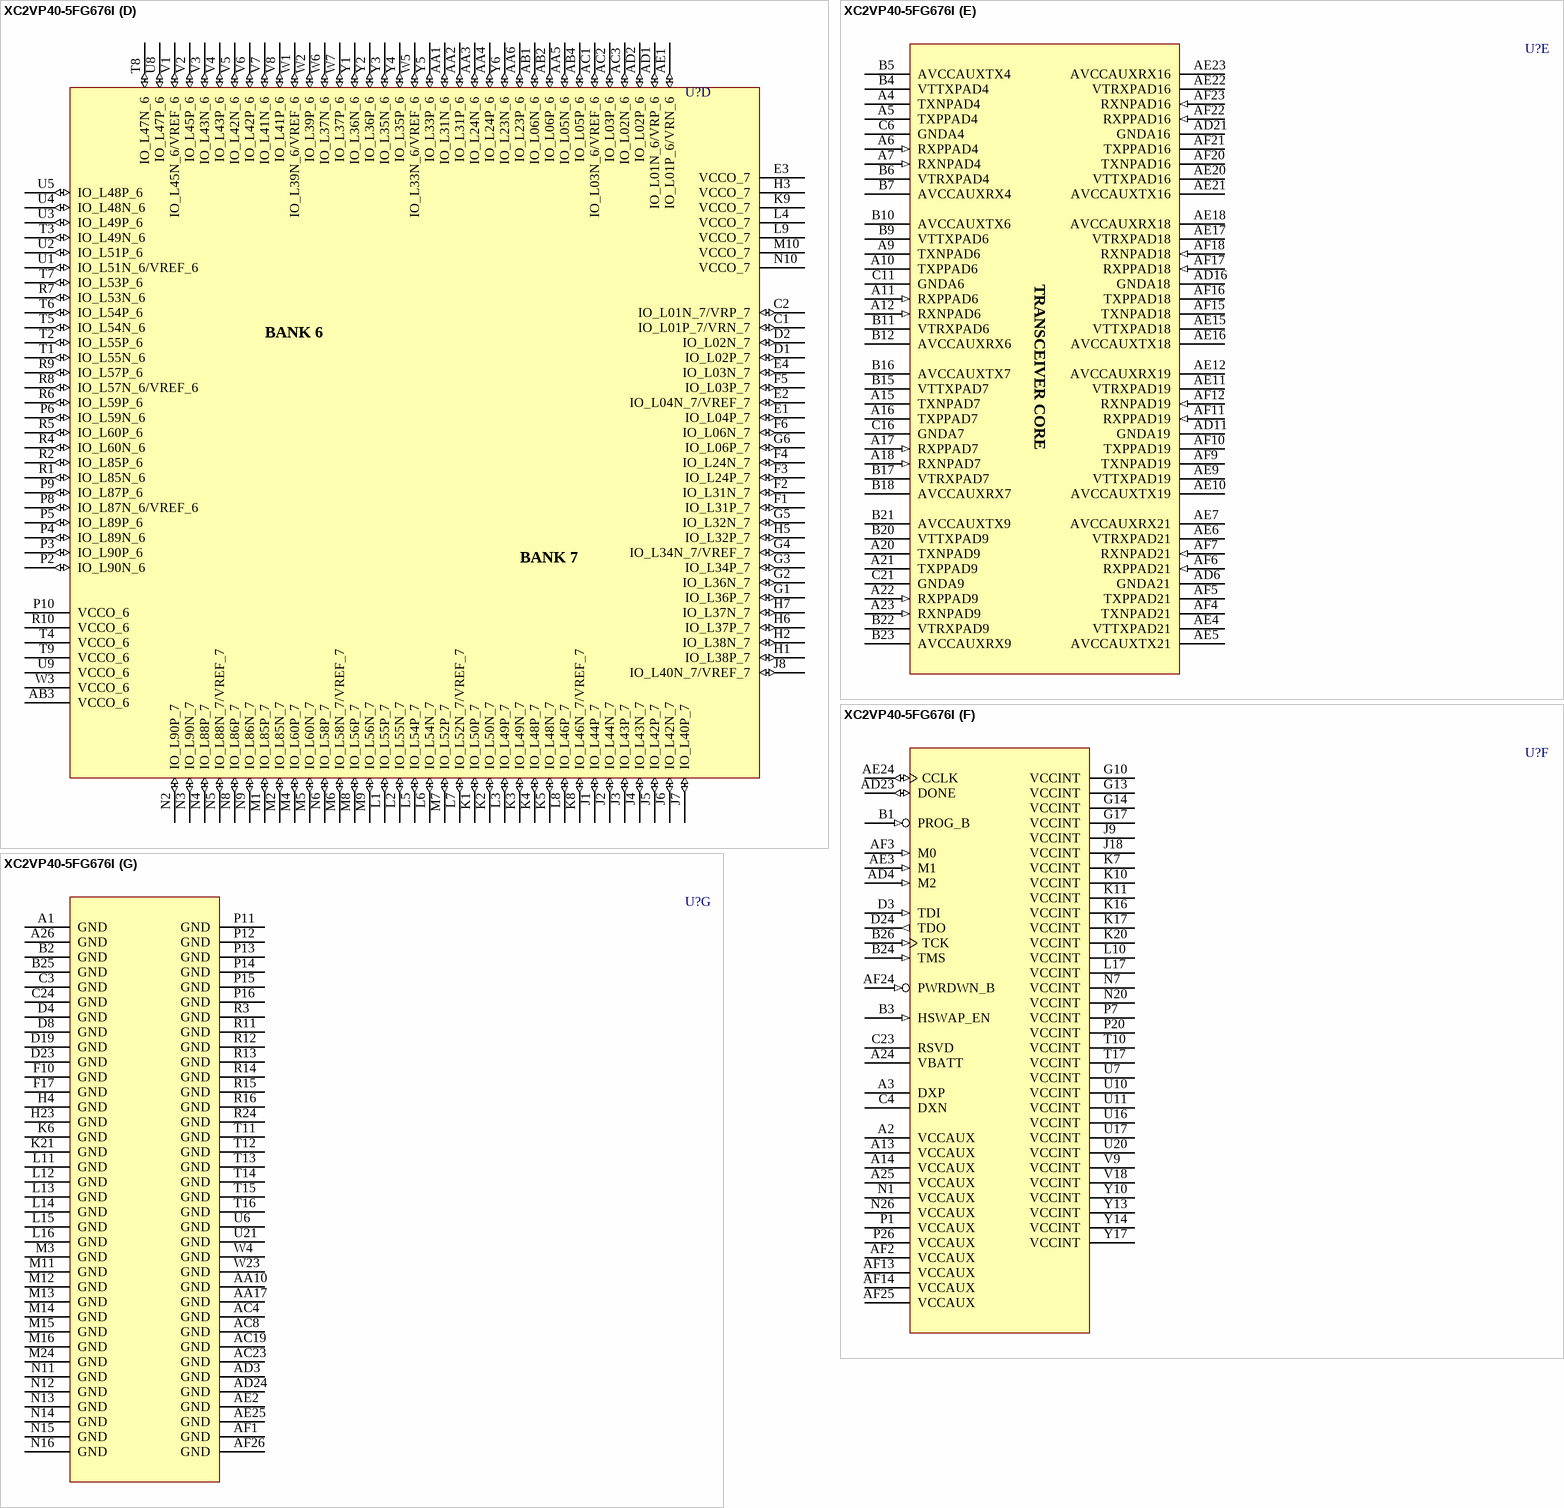
[diagram p254: symbol XC2VP40-5FG676I]